# Altium integrated library Motorola Microcontroller 32-Bit.IntLib: 337 symbols (part 17 of 29)
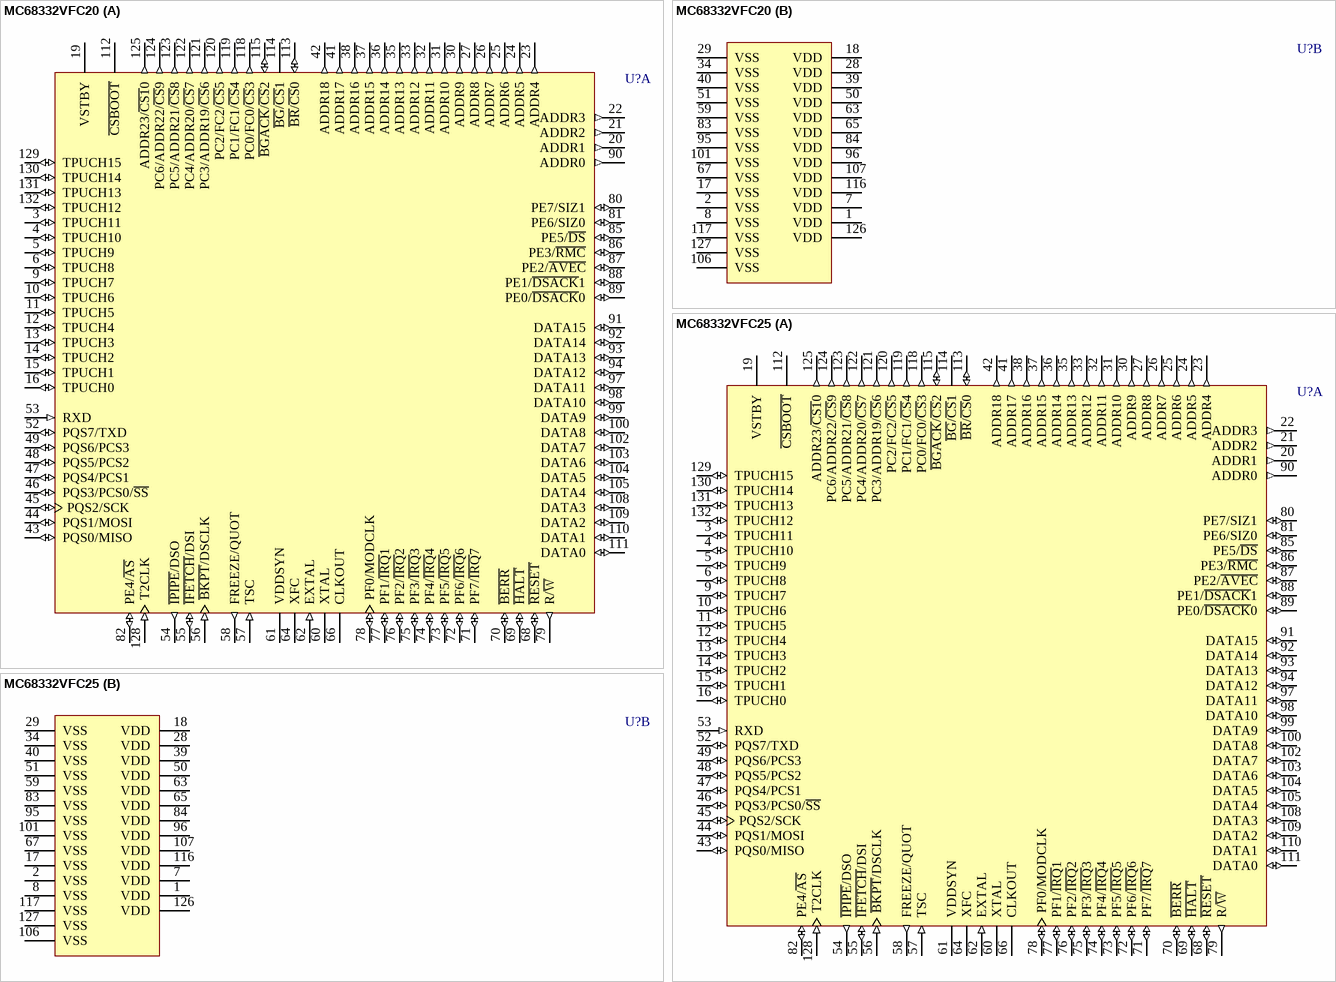
[diagram p256: symbols MC68332VFC20 to MC68332VFC25]

## MC68332VFC25
designator U?
32-Bit Microcontroller; Published: 21-Mar-2003; DatasheetVersion: Jan-1996; PackageVersion: 1997; PackageReference: 831A-01; Publisher: Altium Limited; PackageDescription: PQFP; 132 Leads; Body 24 x 24 mm; Pitch 0.635 mm; ComponentLink1Description: Manufacturer Link; ComponentLink1URL: http://www.freescale.com/; ComponentLink2Description: Datasheet; ComponentLink2URL: http://www.freescale.com/files/microcontrollers/doc/user_guide/MC68332UM.pdf
footprint 831A-01 (PQFP; 132 Leads; Body 24 x 24 mm; Pitch 0.635 mm)
part A pins: 3 TPUCH11 (io), 4 TPUCH10 (io), 5 TPUCH9 (io), 6 TPUCH8 (io), 9 TPUCH7 (io), 10 TPUCH6 (io), 11 TPUCH5 (io), 12 TPUCH4 (io), 13 TPUCH3 (io), 14 TPUCH2 (io), 15 TPUCH1 (io), 16 TPUCH0 (io), 19 VSTBY (power), 20 ADDR1 (out), 21 ADDR2 (out), 22 ADDR3 (out), 23 ADDR4 (out), 24 ADDR5 (out), 25 ADDR6 (out), 26 ADDR7 (out), 27 ADDR8 (out), 30 ADDR9 (out), 31 ADDR10 (out), 32 ADDR11 (out), 33 ADDR12 (out), 35 ADDR13 (out), 36 ADDR14 (out), 37 ADDR15 (out), 38 ADDR16 (out), 41 ADDR17 (out), 42 ADDR18 (out), 43 PQS0/MISO (io), 44 PQS1/MOSI (io), 45 PQS2/SCK (io), 46 PQS3/PCS0/~{SS} (io), 47 PQS4/PCS1 (io), 48 PQS5/PCS2 (io), 49 PQS6/PCS3 (io), 52 PQS7/TXD (io), 53 RXD (in), 54 ~{IPIPE}/DSO (out), 55 ~{IFETCH}/DSI (io), 56 ~{BKPT}/DSCLK (in), 57 TSC (in), 58 FREEZE/QUOT (out), 60 XTAL, 61 VDDSYN (power), 62 EXTAL (in), 64 XFC, 66 CLKOUT (hiz), 68 ~{RESET} (io), 69 ~{HALT} (io), 70 ~{BERR} (io), 71 PF7/~{IRQ}7 (io), 72 PF6/~{IRQ}6 (io), 73 PF5/~{IRQ}5 (io), 74 PF4/~{IRQ}4 (io), 75 PF3/~{IRQ}3 (io), 76 PF2/~{IRQ}2 (io), 77 PF1/~{IRQ}1 (io), 78 PF0/MODCLK (io), 79 R/~{W} (out), 80 PE7/SIZ1 (io), 81 PE6/SIZ0 (io), 82 PE4/~{AS} (io), 85 PE5/~{DS} (io), 86 PE3/~{RMC} (io), 87 PE2/~{AVEC} (io), 88 PE1/~{DSACK}1 (io), 89 PE0/~{DSACK}0 (io), 90 ADDR0 (out), 91 DATA15 (io), 92 DATA14 (io), 93 DATA13 (io), 94 DATA12 (io), 97 DATA11 (io), 98 DATA10 (io), 99 DATA9 (io), 100 DATA8 (io), 102 DATA7 (io), 103 DATA6 (io), 104 DATA5 (io), 105 DATA4 (io), 108 DATA3 (io), 109 DATA2 (io), 110 DATA1 (io), 111 DATA0 (io), 112 ~{CSBOOT} (hiz), 113 ~{BR}/~{CS}0 (io), 114 ~{BG}/~{CS}1 (hiz), 115 ~{BGACK}/~{CS}2 (io), 118 PC0/FC0/~{CS}3 (out), 119 PC1/FC1/~{CS}4 (out), 120 PC2/FC2/~{CS}5 (out), 121 PC3/ADDR19/~{CS}6 (out), 122 PC4/ADDR20/~{CS}7 (out), 123 PC5/ADDR21/~{CS}8 (out), 124 PC6/ADDR22/~{CS}9 (out), 125 ADDR23/~{CS1}0 (out), 128 T2CLK (in), 129 TPUCH15 (io), 130 TPUCH14 (io), 131 TPUCH13 (io), 132 TPUCH12 (io)
part B pins: 1 VDD (power), 2 VSS (power), 7 VDD (power), 8 VSS (power), 17 VSS (power), 18 VDD (power), 28 VDD (power), 29 VSS (power), 34 VSS (power), 39 VDD (power), 40 VSS (power), 50 VDD (power), 51 VSS (power), 59 VSS (power), 63 VDD (power), 65 VDD (power), 67 VSS (power), 83 VSS (power), 84 VDD (power), 95 VSS (power), 96 VDD (power), 101 VSS (power), 106 VSS (power), 107 VDD (power), 116 VDD (power), 117 VSS (power), 126 VDD (power), 127 VSS (power)

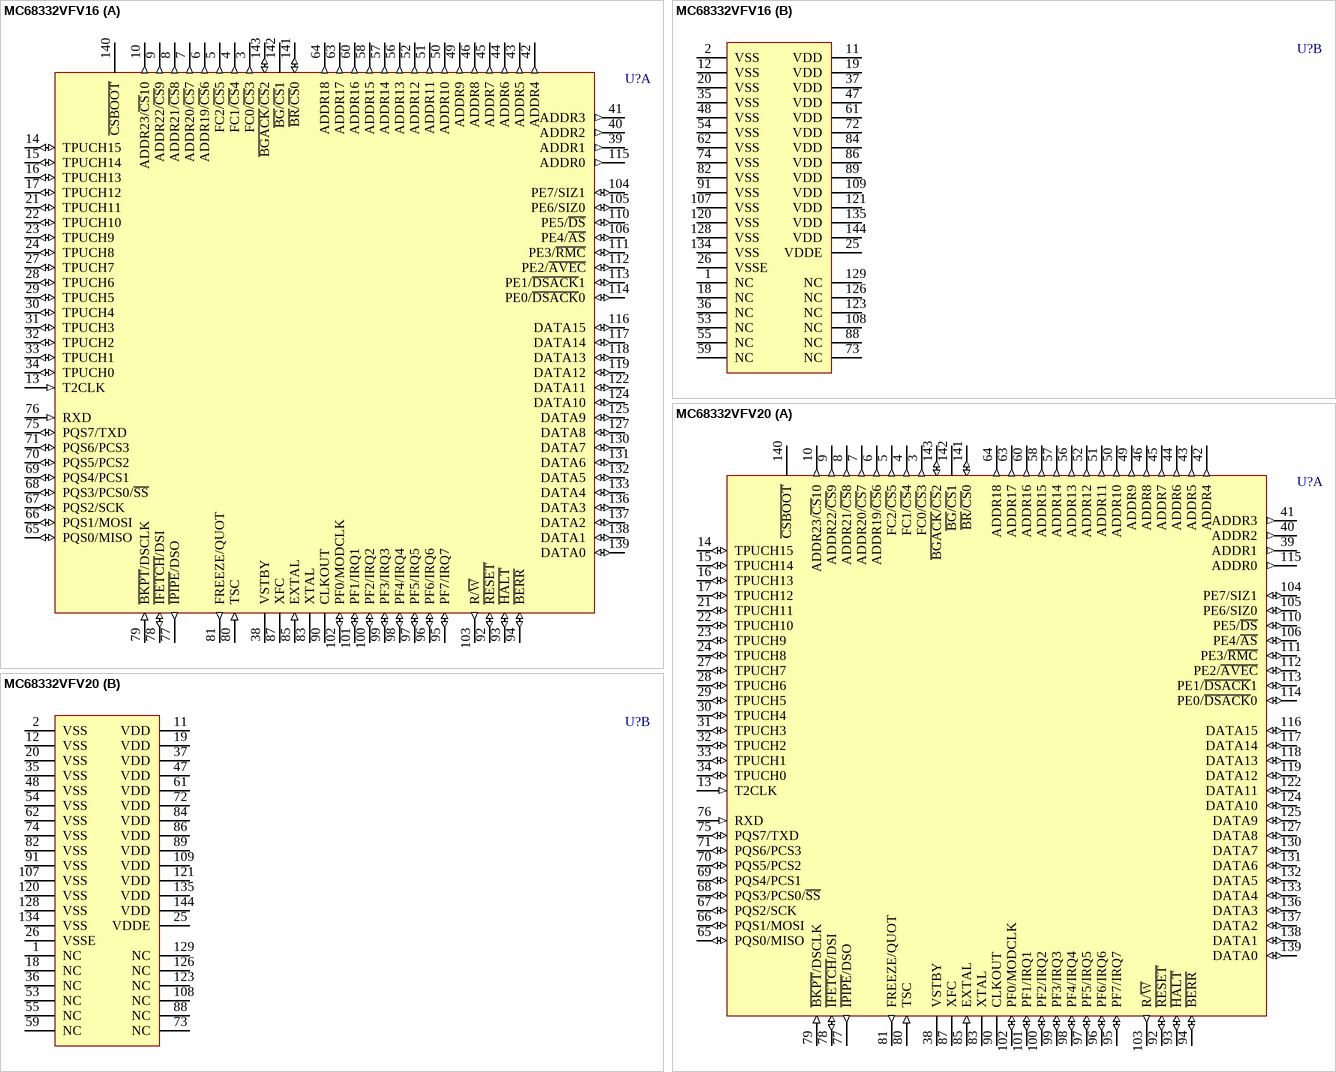
[diagram p138: symbols MC68332VFV16 to MC68332VFV20]

## MC68332VFV16
designator U?
32-Bit Microcontroller; Published: 21-Mar-2003; LatestRevisionDate: 13-Apr-2006; LatestRevisionNote: IPC-7351 Footprint Added.; DatasheetVersion: Jan-1996; PackageVersion: Oct-2000; PackageReference: 863C-01; Publisher: Altium Limited; PackageDescription: 144-Pin Shrink Quad Flat Pack 0.5 mm Pitch; ComponentLink1Description: Manufacturer Link; ComponentLink1URL: http://www.freescale.com/; ComponentLink2Description: Datasheet; ComponentLink2URL: http://www.freescale.com/files/microcontrollers/doc/user_guide/MC68332UM.pdf
footprint 863C-01_N (Shrink QFP, 144-Leads, Body 20x20mm, Pitch 0.5mm, IPC Medium Density)
footprint 863C-01_L (Shrink QFP, 144-Leads, Body 20x20mm, Pitch 0.5mm, IPC High Density)
footprint 863C-01_M (Shrink QFP, 144-Leads, Body 20x20mm, Pitch 0.5mm, IPC Low Density)
3D model MC68332-863C-01 (144-Pin Shrink Quad Flat Pack 0.5 mm Pitch)
part A pins: 3 FC0/~{CS}3 (out), 4 FC1/~{CS}4 (out), 5 FC2/~{CS}5 (out), 6 ADDR19/~{CS}6 (out), 7 ADDR20/~{CS}7 (out), 8 ADDR21/~{CS}8 (out), 9 ADDR22/~{CS}9 (out), 10 ADDR23/~{CS}10 (out), 13 T2CLK (in), 14 TPUCH15 (io), 15 TPUCH14 (io), 16 TPUCH13 (io), 17 TPUCH12 (io), 21 TPUCH11 (io), 22 TPUCH10 (io), 23 TPUCH9 (io), 24 TPUCH8 (io), 27 TPUCH7 (io), 28 TPUCH6 (io), 29 TPUCH5 (io), 30 TPUCH4 (io), 31 TPUCH3 (io), 32 TPUCH2 (io), 33 TPUCH1 (io), 34 TPUCH0 (io), 38 VSTBY (power), 39 ADDR1 (out), 40 ADDR2 (out), 41 ADDR3 (out), 42 ADDR4 (out), 43 ADDR5 (out), 44 ADDR6 (out), 45 ADDR7 (out), 46 ADDR8 (out), 49 ADDR9 (out), 50 ADDR10 (out), 51 ADDR11 (out), 52 ADDR12 (out), 56 ADDR13 (out), 57 ADDR14 (out), 58 ADDR15 (out), 60 ADDR16 (out), 63 ADDR17 (out), 64 ADDR18 (out), 65 PQS0/MISO (io), 66 PQS1/MOSI (io), 67 PQS2/SCK (io), 68 PQS3/PCS0/~{SS} (io), 69 PQS4/PCS1 (io), 70 PQS5/PCS2 (io), 71 PQS6/PCS3 (io), 75 PQS7/TXD (io), 76 RXD (in), 77 ~{IPIPE}/DSO (out), 78 ~{IFETCH}/DSI (io), 79 ~{BKPT}/DSCLK (in), 80 TSC (in), 81 FREEZE/QUOT (out), 83 XTAL, 85 EXTAL (in), 87 XFC, 90 CLKOUT (hiz), 92 ~{RESET} (io), 93 ~{HALT} (io), 94 ~{BERR} (io), 95 PF7/IRQ7 (io), 96 PF6/IRQ6 (io), 97 PF5/IRQ5 (io), 98 PF4/IRQ4 (io), 99 PF3/IRQ3 (io), 100 PF2/IRQ2 (io), 101 PF1/IRQ1 (io), 102 PF0/MODCLK (io), 103 R/~{W} (out), 104 PE7/SIZ1 (io), 105 PE6/SIZ0 (io), 106 PE4/~{AS} (io), 110 PE5/~{DS} (io), 111 PE3/~{RMC} (io), 112 PE2/~{AVEC} (io), 113 PE1/~{DSACK}1 (io), 114 PE0/~{DSACK}0 (io), 115 ADDR0 (out), 116 DATA15 (io), 117 DATA14 (io), 118 DATA13 (io), 119 DATA12 (io), 122 DATA11 (io), 124 DATA10 (io), 125 DATA9 (io), 127 DATA8 (io), 130 DATA7 (io), 131 DATA6 (io), 132 DATA5 (io), 133 DATA4 (io), 136 DATA3 (io), 137 DATA2 (io), 138 DATA1 (io), 139 DATA0 (io), 140 ~{CSBOOT} (hiz), 141 ~{BR}/~{CS}0 (io), 142 ~{BG}/~{CS}1 (hiz), 143 ~{BGACK}/~{CS}2 (io)
part B pins: 1 NC, 2 VSS (power), 11 VDD (power), 12 VSS (power), 18 NC, 19 VDD (power), 20 VSS (power), 25 VDDE (power), 26 VSSE (power), 35 VSS (power), 36 NC, 37 VDD (power), 47 VDD (power), 48 VSS (power), 53 NC, 54 VSS (power), 55 NC, 59 NC, 61 VDD (power), 62 VSS (power), 72 VDD (power), 73 NC, 74 VSS (power), 82 VSS (power), 84 VDD (power), 86 VDD (power), 88 NC, 89 VDD (power), 91 VSS (power), 107 VSS (power), 108 NC, 109 VDD (power), 120 VSS (power), 121 VDD (power), 123 NC, 126 NC, 128 VSS (power), 129 NC, 134 VSS (power), 135 VDD (power), 144 VDD (power)

## MC68332VFV20
designator U?
32-Bit Microcontroller; Published: 21-Mar-2003; LatestRevisionDate: 13-Apr-2006; LatestRevisionNote: IPC-7351 Footprint Added.; DatasheetVersion: Jan-1996; PackageVersion: Oct-2000; PackageReference: 863C-01; Publisher: Altium Limited; PackageDescription: 144-Pin Shrink Quad Flat Pack 0.5 mm Pitch; ComponentLink1Description: Manufacturer Link; ComponentLink1URL: http://www.freescale.com/; ComponentLink2Description: Datasheet; ComponentLink2URL: http://www.freescale.com/files/microcontrollers/doc/user_guide/MC68332UM.pdf
footprint 863C-01_N (Shrink QFP, 144-Leads, Body 20x20mm, Pitch 0.5mm, IPC Medium Density)
footprint 863C-01_L (Shrink QFP, 144-Leads, Body 20x20mm, Pitch 0.5mm, IPC High Density)
footprint 863C-01_M (Shrink QFP, 144-Leads, Body 20x20mm, Pitch 0.5mm, IPC Low Density)
3D model MC68332-863C-01 (144-Pin Shrink Quad Flat Pack 0.5 mm Pitch)
part A pins: 3 FC0/~{CS}3 (out), 4 FC1/~{CS}4 (out), 5 FC2/~{CS}5 (out), 6 ADDR19/~{CS}6 (out), 7 ADDR20/~{CS}7 (out), 8 ADDR21/~{CS}8 (out), 9 ADDR22/~{CS}9 (out), 10 ADDR23/~{CS}10 (out), 13 T2CLK (in), 14 TPUCH15 (io), 15 TPUCH14 (io), 16 TPUCH13 (io), 17 TPUCH12 (io), 21 TPUCH11 (io), 22 TPUCH10 (io), 23 TPUCH9 (io), 24 TPUCH8 (io), 27 TPUCH7 (io), 28 TPUCH6 (io), 29 TPUCH5 (io), 30 TPUCH4 (io), 31 TPUCH3 (io), 32 TPUCH2 (io), 33 TPUCH1 (io), 34 TPUCH0 (io), 38 VSTBY (power), 39 ADDR1 (out), 40 ADDR2 (out), 41 ADDR3 (out), 42 ADDR4 (out), 43 ADDR5 (out), 44 ADDR6 (out), 45 ADDR7 (out), 46 ADDR8 (out), 49 ADDR9 (out), 50 ADDR10 (out), 51 ADDR11 (out), 52 ADDR12 (out), 56 ADDR13 (out), 57 ADDR14 (out), 58 ADDR15 (out), 60 ADDR16 (out), 63 ADDR17 (out), 64 ADDR18 (out), 65 PQS0/MISO (io), 66 PQS1/MOSI (io), 67 PQS2/SCK (io), 68 PQS3/PCS0/~{SS} (io), 69 PQS4/PCS1 (io), 70 PQS5/PCS2 (io), 71 PQS6/PCS3 (io), 75 PQS7/TXD (io), 76 RXD (in), 77 ~{IPIPE}/DSO (out), 78 ~{IFETCH}/DSI (io), 79 ~{BKPT}/DSCLK (in), 80 TSC (in), 81 FREEZE/QUOT (out), 83 XTAL, 85 EXTAL (in), 87 XFC, 90 CLKOUT (hiz), 92 ~{RESET} (io), 93 ~{HALT} (io), 94 ~{BERR} (io), 95 PF7/IRQ7 (io), 96 PF6/IRQ6 (io), 97 PF5/IRQ5 (io), 98 PF4/IRQ4 (io), 99 PF3/IRQ3 (io), 100 PF2/IRQ2 (io), 101 PF1/IRQ1 (io), 102 PF0/MODCLK (io), 103 R/~{W} (out), 104 PE7/SIZ1 (io), 105 PE6/SIZ0 (io), 106 PE4/~{AS} (io), 110 PE5/~{DS} (io), 111 PE3/~{RMC} (io), 112 PE2/~{AVEC} (io), 113 PE1/~{DSACK}1 (io), 114 PE0/~{DSACK}0 (io), 115 ADDR0 (out), 116 DATA15 (io), 117 DATA14 (io), 118 DATA13 (io), 119 DATA12 (io), 122 DATA11 (io), 124 DATA10 (io), 125 DATA9 (io), 127 DATA8 (io), 130 DATA7 (io), 131 DATA6 (io), 132 DATA5 (io), 133 DATA4 (io), 136 DATA3 (io), 137 DATA2 (io), 138 DATA1 (io), 139 DATA0 (io), 140 ~{CSBOOT} (hiz), 141 ~{BR}/~{CS}0 (io), 142 ~{BG}/~{CS}1 (hiz), 143 ~{BGACK}/~{CS}2 (io)
part B pins: 1 NC, 2 VSS (power), 11 VDD (power), 12 VSS (power), 18 NC, 19 VDD (power), 20 VSS (power), 25 VDDE (power), 26 VSSE (power), 35 VSS (power), 36 NC, 37 VDD (power), 47 VDD (power), 48 VSS (power), 53 NC, 54 VSS (power), 55 NC, 59 NC, 61 VDD (power), 62 VSS (power), 72 VDD (power), 73 NC, 74 VSS (power), 82 VSS (power), 84 VDD (power), 86 VDD (power), 88 NC, 89 VDD (power), 91 VSS (power), 107 VSS (power), 108 NC, 109 VDD (power), 120 VSS (power), 121 VDD (power), 123 NC, 126 NC, 128 VSS (power), 129 NC, 134 VSS (power), 135 VDD (power), 144 VDD (power)

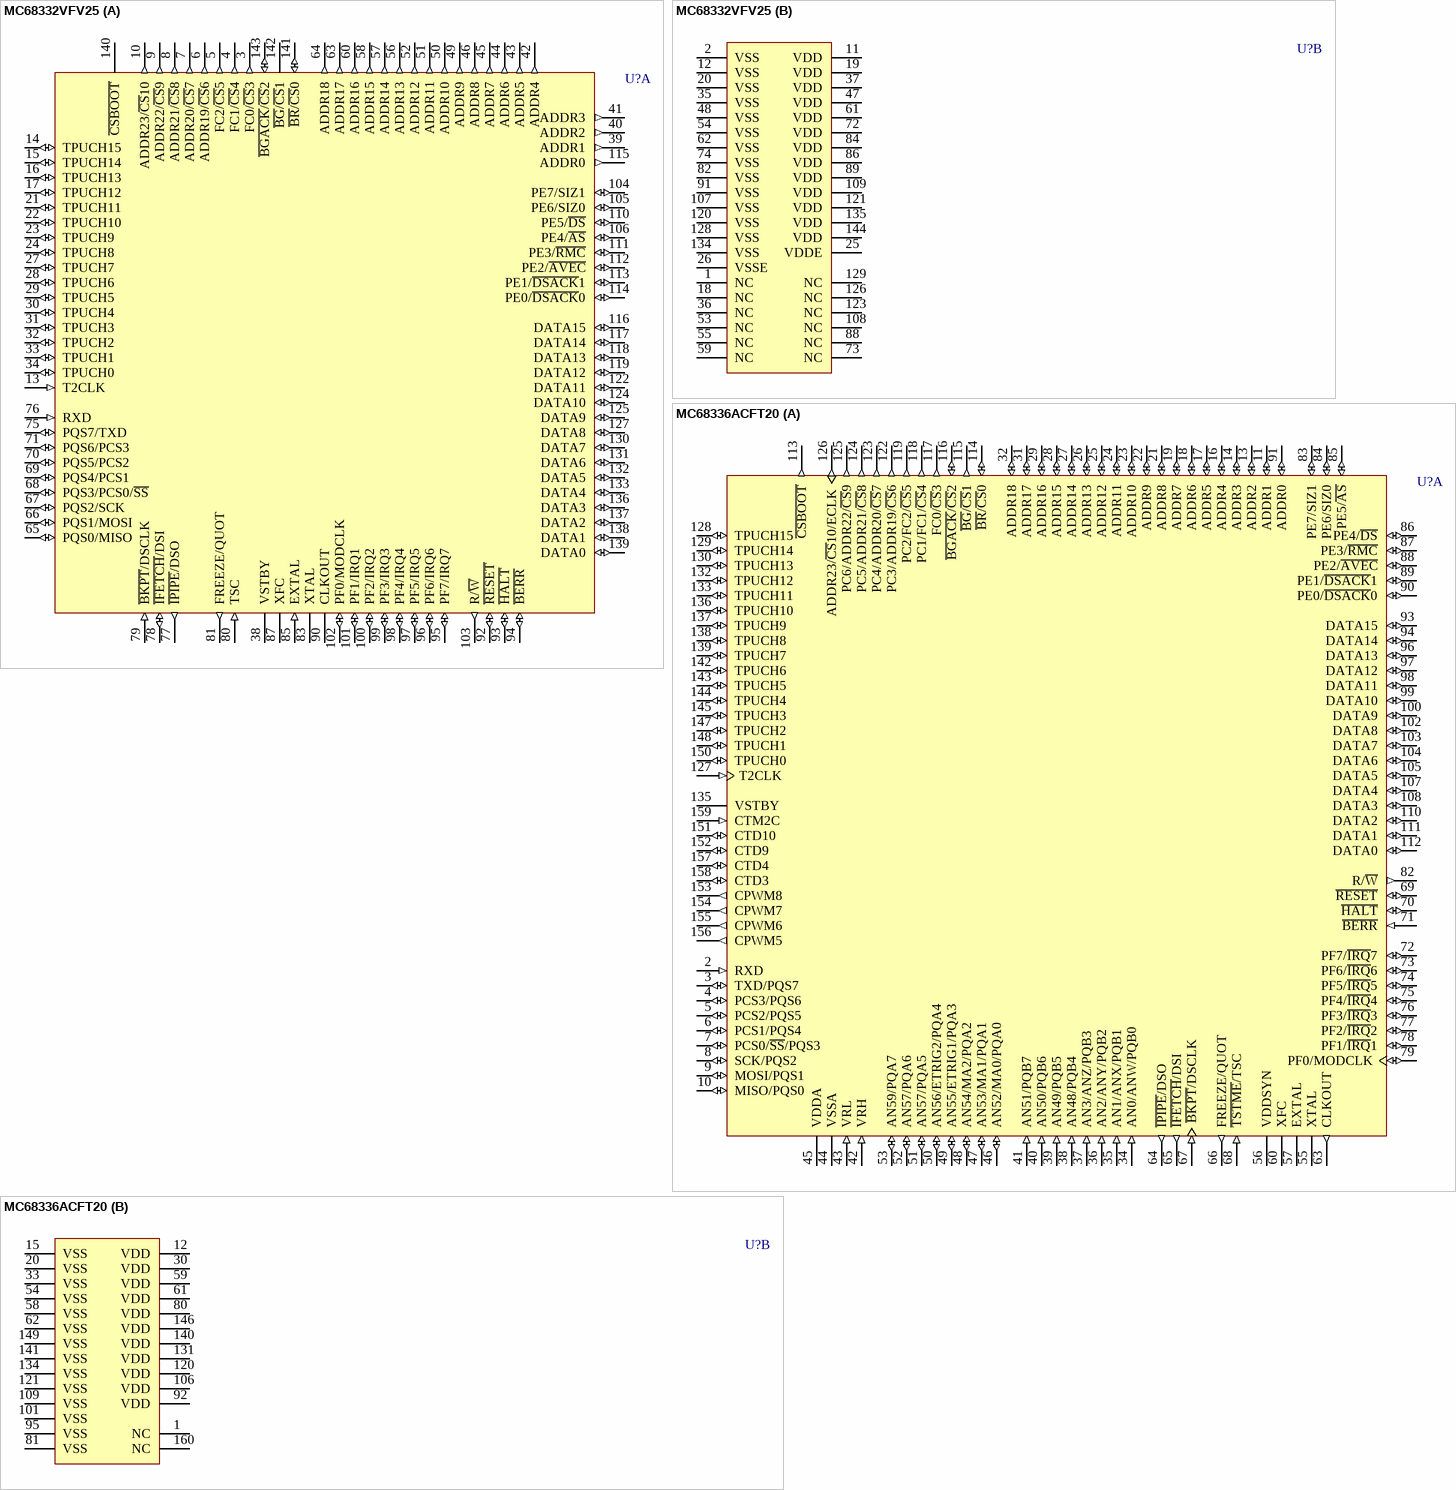
[diagram p139: symbols MC68332VFV25 to MC68336ACFT20]

## MC68332VFV25
designator U?
32-Bit Microcontroller; Published: 21-Mar-2003; LatestRevisionDate: 13-Apr-2006; LatestRevisionNote: IPC-7351 Footprint Added.; DatasheetVersion: Jan-1996; PackageVersion: Oct-2000; PackageReference: 863C-01; Publisher: Altium Limited; PackageDescription: 144-Pin Shrink Quad Flat Pack 0.5 mm Pitch; ComponentLink1Description: Manufacturer Link; ComponentLink1URL: http://www.freescale.com/; ComponentLink2Description: Datasheet; ComponentLink2URL: http://www.freescale.com/files/microcontrollers/doc/user_guide/MC68332UM.pdf
footprint 863C-01_N (Shrink QFP, 144-Leads, Body 20x20mm, Pitch 0.5mm, IPC Medium Density)
footprint 863C-01_L (Shrink QFP, 144-Leads, Body 20x20mm, Pitch 0.5mm, IPC High Density)
footprint 863C-01_M (Shrink QFP, 144-Leads, Body 20x20mm, Pitch 0.5mm, IPC Low Density)
3D model MC68332-863C-01 (144-Pin Shrink Quad Flat Pack 0.5 mm Pitch)
part A pins: 3 FC0/~{CS}3 (out), 4 FC1/~{CS}4 (out), 5 FC2/~{CS}5 (out), 6 ADDR19/~{CS}6 (out), 7 ADDR20/~{CS}7 (out), 8 ADDR21/~{CS}8 (out), 9 ADDR22/~{CS}9 (out), 10 ADDR23/~{CS}10 (out), 13 T2CLK (in), 14 TPUCH15 (io), 15 TPUCH14 (io), 16 TPUCH13 (io), 17 TPUCH12 (io), 21 TPUCH11 (io), 22 TPUCH10 (io), 23 TPUCH9 (io), 24 TPUCH8 (io), 27 TPUCH7 (io), 28 TPUCH6 (io), 29 TPUCH5 (io), 30 TPUCH4 (io), 31 TPUCH3 (io), 32 TPUCH2 (io), 33 TPUCH1 (io), 34 TPUCH0 (io), 38 VSTBY (power), 39 ADDR1 (out), 40 ADDR2 (out), 41 ADDR3 (out), 42 ADDR4 (out), 43 ADDR5 (out), 44 ADDR6 (out), 45 ADDR7 (out), 46 ADDR8 (out), 49 ADDR9 (out), 50 ADDR10 (out), 51 ADDR11 (out), 52 ADDR12 (out), 56 ADDR13 (out), 57 ADDR14 (out), 58 ADDR15 (out), 60 ADDR16 (out), 63 ADDR17 (out), 64 ADDR18 (out), 65 PQS0/MISO (io), 66 PQS1/MOSI (io), 67 PQS2/SCK (io), 68 PQS3/PCS0/~{SS} (io), 69 PQS4/PCS1 (io), 70 PQS5/PCS2 (io), 71 PQS6/PCS3 (io), 75 PQS7/TXD (io), 76 RXD (in), 77 ~{IPIPE}/DSO (out), 78 ~{IFETCH}/DSI (io), 79 ~{BKPT}/DSCLK (in), 80 TSC (in), 81 FREEZE/QUOT (out), 83 XTAL, 85 EXTAL (in), 87 XFC, 90 CLKOUT (hiz), 92 ~{RESET} (io), 93 ~{HALT} (io), 94 ~{BERR} (io), 95 PF7/IRQ7 (io), 96 PF6/IRQ6 (io), 97 PF5/IRQ5 (io), 98 PF4/IRQ4 (io), 99 PF3/IRQ3 (io), 100 PF2/IRQ2 (io), 101 PF1/IRQ1 (io), 102 PF0/MODCLK (io), 103 R/~{W} (out), 104 PE7/SIZ1 (io), 105 PE6/SIZ0 (io), 106 PE4/~{AS} (io), 110 PE5/~{DS} (io), 111 PE3/~{RMC} (io), 112 PE2/~{AVEC} (io), 113 PE1/~{DSACK}1 (io), 114 PE0/~{DSACK}0 (io), 115 ADDR0 (out), 116 DATA15 (io), 117 DATA14 (io), 118 DATA13 (io), 119 DATA12 (io), 122 DATA11 (io), 124 DATA10 (io), 125 DATA9 (io), 127 DATA8 (io), 130 DATA7 (io), 131 DATA6 (io), 132 DATA5 (io), 133 DATA4 (io), 136 DATA3 (io), 137 DATA2 (io), 138 DATA1 (io), 139 DATA0 (io), 140 ~{CSBOOT} (hiz), 141 ~{BR}/~{CS}0 (io), 142 ~{BG}/~{CS}1 (hiz), 143 ~{BGACK}/~{CS}2 (io)
part B pins: 1 NC, 2 VSS (power), 11 VDD (power), 12 VSS (power), 18 NC, 19 VDD (power), 20 VSS (power), 25 VDDE (power), 26 VSSE (power), 35 VSS (power), 36 NC, 37 VDD (power), 47 VDD (power), 48 VSS (power), 53 NC, 54 VSS (power), 55 NC, 59 NC, 61 VDD (power), 62 VSS (power), 72 VDD (power), 73 NC, 74 VSS (power), 82 VSS (power), 84 VDD (power), 86 VDD (power), 88 NC, 89 VDD (power), 91 VSS (power), 107 VSS (power), 108 NC, 109 VDD (power), 120 VSS (power), 121 VDD (power), 123 NC, 126 NC, 128 VSS (power), 129 NC, 134 VSS (power), 135 VDD (power), 144 VDD (power)

## MC68336ACFT20
designator U?
32-Bit Microcontroller; Published: 21-Mar-2003; LatestRevisionDate: 13-Apr-2006; LatestRevisionNote: IPC-7351 Footprint Added.; DatasheetVersion: 15-Oct-2000; PackageVersion: 1996; PackageReference: 864A-03; Publisher: Altium Limited; PackageDescription: 160-Pin Plastic Quad Flat Pack 0.65 mm Pitch; Code_IPC: QFP65P3120X3120-160; ComponentLink1Description: Manufacturer Link; ComponentLink1URL: http://www.freescale.com/; ComponentLink2Description: Datasheet; ComponentLink2URL: http://www.freescale.com/files/microcontrollers/doc/data_sheet/MC683336_376UM_ZIP.zip
footprint 864A-03_N (QFP, 160-Leads, Body 28 x 28mm, Pitch 0.65mm, IPC Medium Density)
footprint 864A-03_L (QFP, 160-Leads, Body 28 x 28mm, Pitch 0.65mm, IPC High Density)
footprint 864A-03_M (QFP, 160-Leads, Body 28 x 28mm, Pitch 0.65mm, IPC Low Density)
3D model MC68336-864A-03 (160-Pin Plastic Quad Flat Pack 0.65 mm Pitch)
part A pins: 2 RXD (in), 3 TXD/PQS7 (io), 4 PCS3/PQS6 (io), 5 PCS2/PQS5 (io), 6 PCS1/PQS4 (io), 7 PCS0/~{SS}/PQS3 (io), 8 SCK/PQS2 (io), 9 MOSI/PQS1 (io), 10 MISO/PQS0 (io), 11 ADDR1 (io), 13 ADDR2 (io), 14 ADDR3 (io), 16 ADDR4 (io), 17 ADDR5 (io), 18 ADDR6 (io), 19 ADDR7 (io), 21 ADDR8 (io), 22 ADDR9 (io), 23 ADDR10 (io), 24 ADDR11 (io), 25 ADDR12 (io), 26 ADDR13 (io), 27 ADDR14 (io), 28 ADDR15 (io), 29 ADDR16 (io), 31 ADDR17 (io), 32 ADDR18 (io), 34 AN0/ANW/PQB0 (in), 35 AN1/ANX/PQB1 (in), 36 AN2/ANY/PQB2 (in), 37 AN3/ANZ/PQB3 (in), 38 AN48/PQB4 (in), 39 AN49/PQB5 (in), 40 AN50/PQB6 (in), 41 AN51/PQB7 (in), 42 VRH (in), 43 VRL (in), 44 VSSA (power), 45 VDDA (power), 46 AN52/MA0/PQA0 (io), 47 AN53/MA1/PQA1 (io), 48 AN54/MA2/PQA2 (io), 49 AN55/ETRIG1/PQA3 (io), 50 AN56/ETRIG2/PQA4 (io), 51 AN57/PQA5 (io), 52 AN57/PQA6 (io), 53 AN59/PQA7 (io), 55 XTAL, 56 VDDSYN (power), 57 EXTAL, 60 XFC, 63 CLKOUT (out), 64 ~{IPIPE}/DSO (out), 65 ~{IFETCH}/DSI (out), 66 FREEZE/QUOT (out), 67 ~{BKPT}/DSCLK (in), 68 ~{TSTME}/TSC (in), 69 ~{RESET} (io), 70 ~{HALT} (io), 71 ~{BERR} (in), 72 PF7/~{IRQ}7 (io), 73 PF6/~{IRQ}6 (io), 74 PF5/~{IRQ}5 (io), 75 PF4/~{IRQ}4 (io), 76 PF3/~{IRQ}3 (io), 77 PF2/~{IRQ}2 (io), 78 PF1/~{IRQ}1 (io), 79 PF0/MODCLK (io), 82 R/~{W} (out), 83 PE7/SIZ1 (io), 84 PE6/SIZ0 (io), 85 PE5/~{AS} (io), 86 PE4/~{DS} (io), 87 PE3/~{RMC} (io), 88 PE2/~{AVEC} (io), 89 PE1/~{DSACK}1 (io), 90 PE0/~{DSACK}0 (io), 91 ADDR0 (io), 93 DATA15 (io), 94 DATA14 (io), 96 DATA13 (io), 97 DATA12 (io), 98 DATA11 (io), 99 DATA10 (io), 100 DATA9 (io), 102 DATA8 (io), 103 DATA7 (io), 104 DATA6 (io), 105 DATA5 (io), 107 DATA4 (io), 108 DATA3 (io), 110 DATA2 (io), 111 DATA1 (io), 112 DATA0 (io), 113 ~{CSBOOT} (out), 114 ~{BR}/~{CS}0 (io), 115 ~{BG}/~{CS}1 (out), 116 ~{BGACK}/~{CS}2 (io), 117 FC0/~{CS}3 (out), 118 PC1/FC1/~{CS}4 (out), 119 PC2/FC2/~{CS}5 (out), 122 PC3/ADDR19/~{CS}6 (out), 123 PC4/ADDR20/~{CS}7 (out), 124 PC5/ADDR21/~{CS}8 (out), 125 PC6/ADDR22/~{CS}9 (out), 126 ADDR23/~{CS}10/ECLK (out), 127 T2CLK (in), 128 TPUCH15 (io), 129 TPUCH14 (io), 130 TPUCH13 (io), 132 TPUCH12 (io), 133 TPUCH11 (io), 135 VSTBY (power), 136 TPUCH10 (io), 137 TPUCH9 (io), 138 TPUCH8 (io), 139 TPUCH7 (io), 142 TPUCH6 (io), 143 TPUCH5 (io), 144 TPUCH4 (io), 145 TPUCH3 (io), 147 TPUCH2 (io), 148 TPUCH1 (io), 150 TPUCH0 (io), 151 CTD10 (io), 152 CTD9 (io), 153 CPWM8 (out), 154 CPWM7 (out), 155 CPWM6 (out), 156 CPWM5 (out), 157 CTD4 (io), 158 CTD3 (io), 159 CTM2C (in)
part B pins: 1 NC, 12 VDD (power), 15 VSS (power), 20 VSS (power), 30 VDD (power), 33 VSS (power), 54 VSS (power), 58 VSS (power), 59 VDD (power), 61 VDD (power), 62 VSS (power), 80 VDD (power), 81 VSS (power), 92 VDD (power), 95 VSS (power), 101 VSS (power), 106 VDD (power), 109 VSS (power), 120 VDD (power), 121 VSS (power), 131 VDD (power), 134 VSS (power), 140 VDD (power), 141 VSS (power), 146 VDD (power), 149 VSS (power), 160 NC

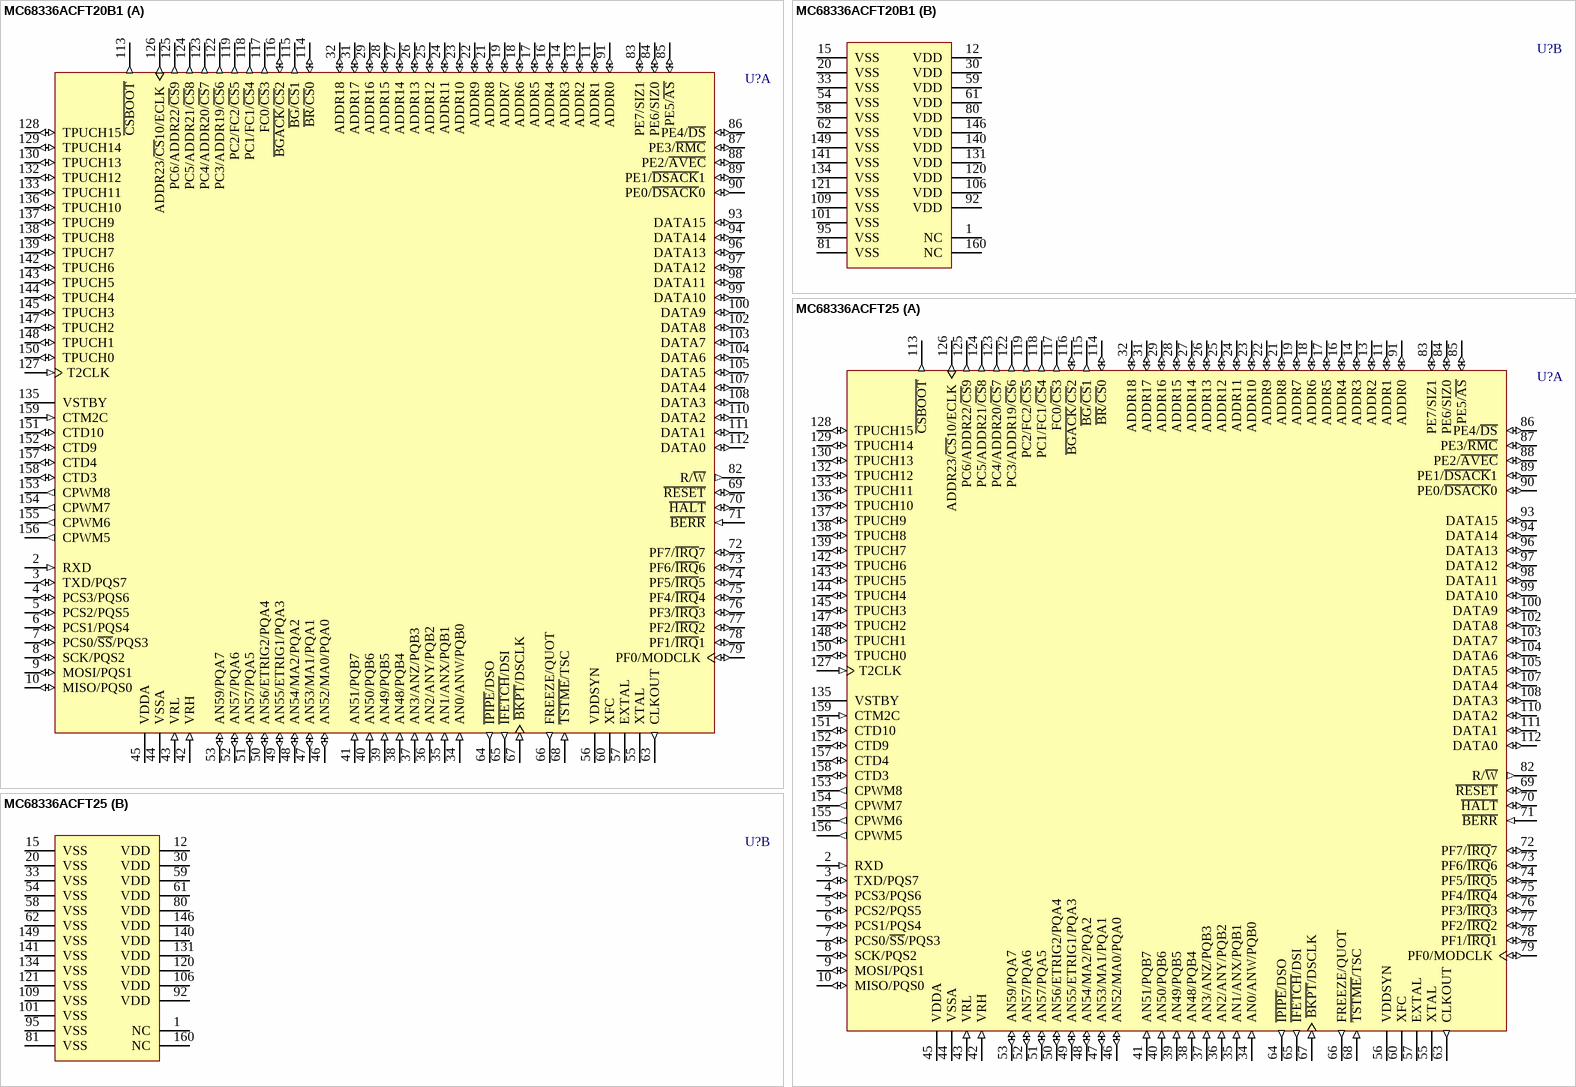
[diagram p140: symbols MC68336ACFT20B1 to MC68336ACFT25]

## MC68336ACFT20B1
designator U?
32-Bit Microcontroller; Published: 21-Mar-2003; LatestRevisionDate: 13-Apr-2006; LatestRevisionNote: IPC-7351 Footprint Added.; DatasheetVersion: 15-Oct-2000; PackageVersion: 1996; PackageReference: 864A-03; Publisher: Altium Limited; PackageDescription: 160-Pin Plastic Quad Flat Pack 0.65 mm Pitch; Code_IPC: QFP65P3120X3120-160; ComponentLink1Description: Manufacturer Link; ComponentLink1URL: http://www.freescale.com/; ComponentLink2Description: Datasheet; ComponentLink2URL: http://www.freescale.com/files/microcontrollers/doc/data_sheet/MC683336_376UM_ZIP.zip
footprint 864A-03_N (QFP, 160-Leads, Body 28 x 28mm, Pitch 0.65mm, IPC Medium Density)
footprint 864A-03_L (QFP, 160-Leads, Body 28 x 28mm, Pitch 0.65mm, IPC High Density)
footprint 864A-03_M (QFP, 160-Leads, Body 28 x 28mm, Pitch 0.65mm, IPC Low Density)
3D model MC68336-864A-03 (160-Pin Plastic Quad Flat Pack 0.65 mm Pitch)
part A pins: 2 RXD (in), 3 TXD/PQS7 (io), 4 PCS3/PQS6 (io), 5 PCS2/PQS5 (io), 6 PCS1/PQS4 (io), 7 PCS0/~{SS}/PQS3 (io), 8 SCK/PQS2 (io), 9 MOSI/PQS1 (io), 10 MISO/PQS0 (io), 11 ADDR1 (io), 13 ADDR2 (io), 14 ADDR3 (io), 16 ADDR4 (io), 17 ADDR5 (io), 18 ADDR6 (io), 19 ADDR7 (io), 21 ADDR8 (io), 22 ADDR9 (io), 23 ADDR10 (io), 24 ADDR11 (io), 25 ADDR12 (io), 26 ADDR13 (io), 27 ADDR14 (io), 28 ADDR15 (io), 29 ADDR16 (io), 31 ADDR17 (io), 32 ADDR18 (io), 34 AN0/ANW/PQB0 (in), 35 AN1/ANX/PQB1 (in), 36 AN2/ANY/PQB2 (in), 37 AN3/ANZ/PQB3 (in), 38 AN48/PQB4 (in), 39 AN49/PQB5 (in), 40 AN50/PQB6 (in), 41 AN51/PQB7 (in), 42 VRH (in), 43 VRL (in), 44 VSSA (power), 45 VDDA (power), 46 AN52/MA0/PQA0 (io), 47 AN53/MA1/PQA1 (io), 48 AN54/MA2/PQA2 (io), 49 AN55/ETRIG1/PQA3 (io), 50 AN56/ETRIG2/PQA4 (io), 51 AN57/PQA5 (io), 52 AN57/PQA6 (io), 53 AN59/PQA7 (io), 55 XTAL, 56 VDDSYN (power), 57 EXTAL, 60 XFC, 63 CLKOUT (out), 64 ~{IPIPE}/DSO (out), 65 ~{IFETCH}/DSI (out), 66 FREEZE/QUOT (out), 67 ~{BKPT}/DSCLK (in), 68 ~{TSTME}/TSC (in), 69 ~{RESET} (io), 70 ~{HALT} (io), 71 ~{BERR} (in), 72 PF7/~{IRQ}7 (io), 73 PF6/~{IRQ}6 (io), 74 PF5/~{IRQ}5 (io), 75 PF4/~{IRQ}4 (io), 76 PF3/~{IRQ}3 (io), 77 PF2/~{IRQ}2 (io), 78 PF1/~{IRQ}1 (io), 79 PF0/MODCLK (io), 82 R/~{W} (out), 83 PE7/SIZ1 (io), 84 PE6/SIZ0 (io), 85 PE5/~{AS} (io), 86 PE4/~{DS} (io), 87 PE3/~{RMC} (io), 88 PE2/~{AVEC} (io), 89 PE1/~{DSACK}1 (io), 90 PE0/~{DSACK}0 (io), 91 ADDR0 (io), 93 DATA15 (io), 94 DATA14 (io), 96 DATA13 (io), 97 DATA12 (io), 98 DATA11 (io), 99 DATA10 (io), 100 DATA9 (io), 102 DATA8 (io), 103 DATA7 (io), 104 DATA6 (io), 105 DATA5 (io), 107 DATA4 (io), 108 DATA3 (io), 110 DATA2 (io), 111 DATA1 (io), 112 DATA0 (io), 113 ~{CSBOOT} (out), 114 ~{BR}/~{CS}0 (io), 115 ~{BG}/~{CS}1 (out), 116 ~{BGACK}/~{CS}2 (io), 117 FC0/~{CS}3 (out), 118 PC1/FC1/~{CS}4 (out), 119 PC2/FC2/~{CS}5 (out), 122 PC3/ADDR19/~{CS}6 (out), 123 PC4/ADDR20/~{CS}7 (out), 124 PC5/ADDR21/~{CS}8 (out), 125 PC6/ADDR22/~{CS}9 (out), 126 ADDR23/~{CS}10/ECLK (out), 127 T2CLK (in), 128 TPUCH15 (io), 129 TPUCH14 (io), 130 TPUCH13 (io), 132 TPUCH12 (io), 133 TPUCH11 (io), 135 VSTBY (power), 136 TPUCH10 (io), 137 TPUCH9 (io), 138 TPUCH8 (io), 139 TPUCH7 (io), 142 TPUCH6 (io), 143 TPUCH5 (io), 144 TPUCH4 (io), 145 TPUCH3 (io), 147 TPUCH2 (io), 148 TPUCH1 (io), 150 TPUCH0 (io), 151 CTD10 (io), 152 CTD9 (io), 153 CPWM8 (out), 154 CPWM7 (out), 155 CPWM6 (out), 156 CPWM5 (out), 157 CTD4 (io), 158 CTD3 (io), 159 CTM2C (in)
part B pins: 1 NC, 12 VDD (power), 15 VSS (power), 20 VSS (power), 30 VDD (power), 33 VSS (power), 54 VSS (power), 58 VSS (power), 59 VDD (power), 61 VDD (power), 62 VSS (power), 80 VDD (power), 81 VSS (power), 92 VDD (power), 95 VSS (power), 101 VSS (power), 106 VDD (power), 109 VSS (power), 120 VDD (power), 121 VSS (power), 131 VDD (power), 134 VSS (power), 140 VDD (power), 141 VSS (power), 146 VDD (power), 149 VSS (power), 160 NC

## MC68336ACFT25
designator U?
32-Bit Microcontroller; Published: 21-Mar-2003; LatestRevisionDate: 13-Apr-2006; LatestRevisionNote: IPC-7351 Footprint Added.; DatasheetVersion: 15-Oct-2000; PackageVersion: 1996; PackageReference: 864A-03; Publisher: Altium Limited; PackageDescription: 160-Pin Plastic Quad Flat Pack 0.65 mm Pitch; Code_IPC: QFP65P3120X3120-160; ComponentLink1Description: Manufacturer Link; ComponentLink1URL: http://www.freescale.com/; ComponentLink2Description: Datasheet; ComponentLink2URL: http://www.freescale.com/files/microcontrollers/doc/data_sheet/MC683336_376UM_ZIP.zip
footprint 864A-03_N (QFP, 160-Leads, Body 28 x 28mm, Pitch 0.65mm, IPC Medium Density)
footprint 864A-03_L (QFP, 160-Leads, Body 28 x 28mm, Pitch 0.65mm, IPC High Density)
footprint 864A-03_M (QFP, 160-Leads, Body 28 x 28mm, Pitch 0.65mm, IPC Low Density)
3D model MC68336-864A-03 (160-Pin Plastic Quad Flat Pack 0.65 mm Pitch)
part A pins: 2 RXD (in), 3 TXD/PQS7 (io), 4 PCS3/PQS6 (io), 5 PCS2/PQS5 (io), 6 PCS1/PQS4 (io), 7 PCS0/~{SS}/PQS3 (io), 8 SCK/PQS2 (io), 9 MOSI/PQS1 (io), 10 MISO/PQS0 (io), 11 ADDR1 (io), 13 ADDR2 (io), 14 ADDR3 (io), 16 ADDR4 (io), 17 ADDR5 (io), 18 ADDR6 (io), 19 ADDR7 (io), 21 ADDR8 (io), 22 ADDR9 (io), 23 ADDR10 (io), 24 ADDR11 (io), 25 ADDR12 (io), 26 ADDR13 (io), 27 ADDR14 (io), 28 ADDR15 (io), 29 ADDR16 (io), 31 ADDR17 (io), 32 ADDR18 (io), 34 AN0/ANW/PQB0 (in), 35 AN1/ANX/PQB1 (in), 36 AN2/ANY/PQB2 (in), 37 AN3/ANZ/PQB3 (in), 38 AN48/PQB4 (in), 39 AN49/PQB5 (in), 40 AN50/PQB6 (in), 41 AN51/PQB7 (in), 42 VRH (in), 43 VRL (in), 44 VSSA (power), 45 VDDA (power), 46 AN52/MA0/PQA0 (io), 47 AN53/MA1/PQA1 (io), 48 AN54/MA2/PQA2 (io), 49 AN55/ETRIG1/PQA3 (io), 50 AN56/ETRIG2/PQA4 (io), 51 AN57/PQA5 (io), 52 AN57/PQA6 (io), 53 AN59/PQA7 (io), 55 XTAL, 56 VDDSYN (power), 57 EXTAL, 60 XFC, 63 CLKOUT (out), 64 ~{IPIPE}/DSO (out), 65 ~{IFETCH}/DSI (out), 66 FREEZE/QUOT (out), 67 ~{BKPT}/DSCLK (in), 68 ~{TSTME}/TSC (in), 69 ~{RESET} (io), 70 ~{HALT} (io), 71 ~{BERR} (in), 72 PF7/~{IRQ}7 (io), 73 PF6/~{IRQ}6 (io), 74 PF5/~{IRQ}5 (io), 75 PF4/~{IRQ}4 (io), 76 PF3/~{IRQ}3 (io), 77 PF2/~{IRQ}2 (io), 78 PF1/~{IRQ}1 (io), 79 PF0/MODCLK (io), 82 R/~{W} (out), 83 PE7/SIZ1 (io), 84 PE6/SIZ0 (io), 85 PE5/~{AS} (io), 86 PE4/~{DS} (io), 87 PE3/~{RMC} (io), 88 PE2/~{AVEC} (io), 89 PE1/~{DSACK}1 (io), 90 PE0/~{DSACK}0 (io), 91 ADDR0 (io), 93 DATA15 (io), 94 DATA14 (io), 96 DATA13 (io), 97 DATA12 (io), 98 DATA11 (io), 99 DATA10 (io), 100 DATA9 (io), 102 DATA8 (io), 103 DATA7 (io), 104 DATA6 (io), 105 DATA5 (io), 107 DATA4 (io), 108 DATA3 (io), 110 DATA2 (io), 111 DATA1 (io), 112 DATA0 (io), 113 ~{CSBOOT} (out), 114 ~{BR}/~{CS}0 (io), 115 ~{BG}/~{CS}1 (out), 116 ~{BGACK}/~{CS}2 (io), 117 FC0/~{CS}3 (out), 118 PC1/FC1/~{CS}4 (out), 119 PC2/FC2/~{CS}5 (out), 122 PC3/ADDR19/~{CS}6 (out), 123 PC4/ADDR20/~{CS}7 (out), 124 PC5/ADDR21/~{CS}8 (out), 125 PC6/ADDR22/~{CS}9 (out), 126 ADDR23/~{CS}10/ECLK (out), 127 T2CLK (in), 128 TPUCH15 (io), 129 TPUCH14 (io), 130 TPUCH13 (io), 132 TPUCH12 (io), 133 TPUCH11 (io), 135 VSTBY (power), 136 TPUCH10 (io), 137 TPUCH9 (io), 138 TPUCH8 (io), 139 TPUCH7 (io), 142 TPUCH6 (io), 143 TPUCH5 (io), 144 TPUCH4 (io), 145 TPUCH3 (io), 147 TPUCH2 (io), 148 TPUCH1 (io), 150 TPUCH0 (io), 151 CTD10 (io), 152 CTD9 (io), 153 CPWM8 (out), 154 CPWM7 (out), 155 CPWM6 (out), 156 CPWM5 (out), 157 CTD4 (io), 158 CTD3 (io), 159 CTM2C (in)
part B pins: 1 NC, 12 VDD (power), 15 VSS (power), 20 VSS (power), 30 VDD (power), 33 VSS (power), 54 VSS (power), 58 VSS (power), 59 VDD (power), 61 VDD (power), 62 VSS (power), 80 VDD (power), 81 VSS (power), 92 VDD (power), 95 VSS (power), 101 VSS (power), 106 VDD (power), 109 VSS (power), 120 VDD (power), 121 VSS (power), 131 VDD (power), 134 VSS (power), 140 VDD (power), 141 VSS (power), 146 VDD (power), 149 VSS (power), 160 NC

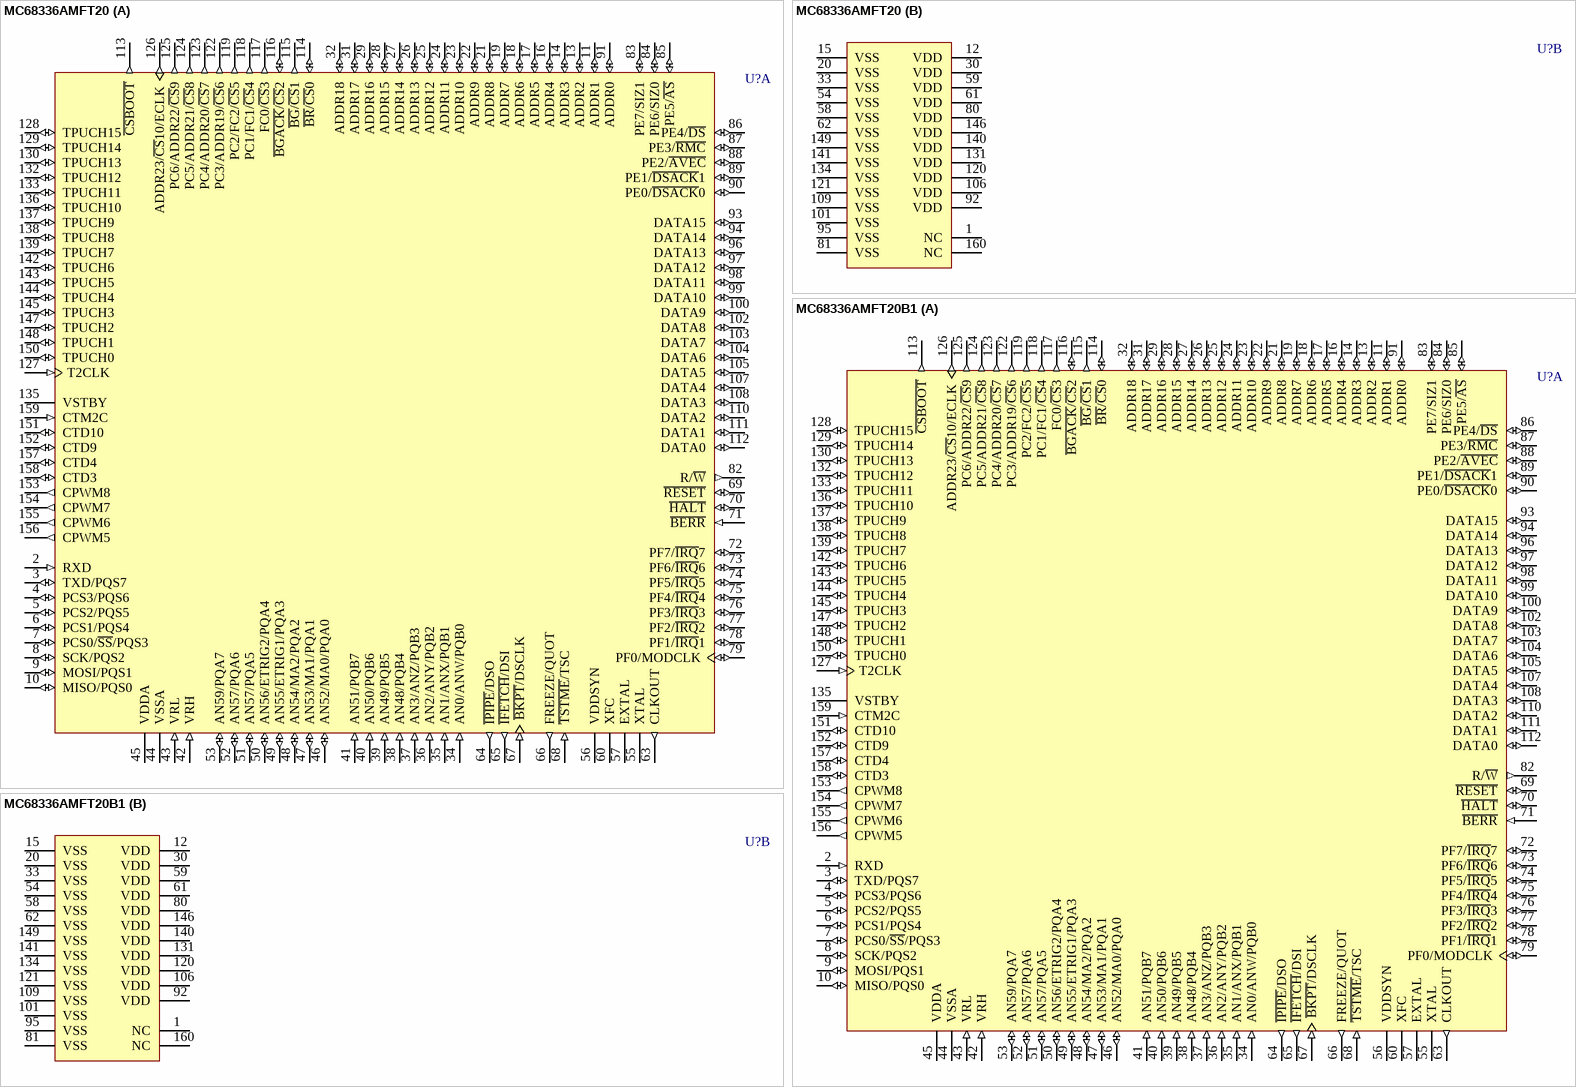
[diagram p141: symbols MC68336AMFT20 to MC68336AMFT20B1]

## MC68336AMFT20
designator U?
32-Bit Microcontroller; Published: 21-Mar-2003; LatestRevisionDate: 13-Apr-2006; LatestRevisionNote: IPC-7351 Footprint Added.; DatasheetVersion: 15-Oct-2000; PackageVersion: 1996; PackageReference: 864A-03; Publisher: Altium Limited; PackageDescription: 160-Pin Plastic Quad Flat Pack 0.65 mm Pitch; Code_IPC: QFP65P3120X3120-160; ComponentLink1Description: Manufacturer Link; ComponentLink1URL: http://www.freescale.com/; ComponentLink2Description: Datasheet; ComponentLink2URL: http://www.freescale.com/files/microcontrollers/doc/data_sheet/MC683336_376UM_ZIP.zip
footprint 864A-03_N (QFP, 160-Leads, Body 28 x 28mm, Pitch 0.65mm, IPC Medium Density)
footprint 864A-03_L (QFP, 160-Leads, Body 28 x 28mm, Pitch 0.65mm, IPC High Density)
footprint 864A-03_M (QFP, 160-Leads, Body 28 x 28mm, Pitch 0.65mm, IPC Low Density)
3D model MC68336-864A-03 (160-Pin Plastic Quad Flat Pack 0.65 mm Pitch)
part A pins: 2 RXD (in), 3 TXD/PQS7 (io), 4 PCS3/PQS6 (io), 5 PCS2/PQS5 (io), 6 PCS1/PQS4 (io), 7 PCS0/~{SS}/PQS3 (io), 8 SCK/PQS2 (io), 9 MOSI/PQS1 (io), 10 MISO/PQS0 (io), 11 ADDR1 (io), 13 ADDR2 (io), 14 ADDR3 (io), 16 ADDR4 (io), 17 ADDR5 (io), 18 ADDR6 (io), 19 ADDR7 (io), 21 ADDR8 (io), 22 ADDR9 (io), 23 ADDR10 (io), 24 ADDR11 (io), 25 ADDR12 (io), 26 ADDR13 (io), 27 ADDR14 (io), 28 ADDR15 (io), 29 ADDR16 (io), 31 ADDR17 (io), 32 ADDR18 (io), 34 AN0/ANW/PQB0 (in), 35 AN1/ANX/PQB1 (in), 36 AN2/ANY/PQB2 (in), 37 AN3/ANZ/PQB3 (in), 38 AN48/PQB4 (in), 39 AN49/PQB5 (in), 40 AN50/PQB6 (in), 41 AN51/PQB7 (in), 42 VRH (in), 43 VRL (in), 44 VSSA (power), 45 VDDA (power), 46 AN52/MA0/PQA0 (io), 47 AN53/MA1/PQA1 (io), 48 AN54/MA2/PQA2 (io), 49 AN55/ETRIG1/PQA3 (io), 50 AN56/ETRIG2/PQA4 (io), 51 AN57/PQA5 (io), 52 AN57/PQA6 (io), 53 AN59/PQA7 (io), 55 XTAL, 56 VDDSYN (power), 57 EXTAL, 60 XFC, 63 CLKOUT (out), 64 ~{IPIPE}/DSO (out), 65 ~{IFETCH}/DSI (out), 66 FREEZE/QUOT (out), 67 ~{BKPT}/DSCLK (in), 68 ~{TSTME}/TSC (in), 69 ~{RESET} (io), 70 ~{HALT} (io), 71 ~{BERR} (in), 72 PF7/~{IRQ}7 (io), 73 PF6/~{IRQ}6 (io), 74 PF5/~{IRQ}5 (io), 75 PF4/~{IRQ}4 (io), 76 PF3/~{IRQ}3 (io), 77 PF2/~{IRQ}2 (io), 78 PF1/~{IRQ}1 (io), 79 PF0/MODCLK (io), 82 R/~{W} (out), 83 PE7/SIZ1 (io), 84 PE6/SIZ0 (io), 85 PE5/~{AS} (io), 86 PE4/~{DS} (io), 87 PE3/~{RMC} (io), 88 PE2/~{AVEC} (io), 89 PE1/~{DSACK}1 (io), 90 PE0/~{DSACK}0 (io), 91 ADDR0 (io), 93 DATA15 (io), 94 DATA14 (io), 96 DATA13 (io), 97 DATA12 (io), 98 DATA11 (io), 99 DATA10 (io), 100 DATA9 (io), 102 DATA8 (io), 103 DATA7 (io), 104 DATA6 (io), 105 DATA5 (io), 107 DATA4 (io), 108 DATA3 (io), 110 DATA2 (io), 111 DATA1 (io), 112 DATA0 (io), 113 ~{CSBOOT} (out), 114 ~{BR}/~{CS}0 (io), 115 ~{BG}/~{CS}1 (out), 116 ~{BGACK}/~{CS}2 (io), 117 FC0/~{CS}3 (out), 118 PC1/FC1/~{CS}4 (out), 119 PC2/FC2/~{CS}5 (out), 122 PC3/ADDR19/~{CS}6 (out), 123 PC4/ADDR20/~{CS}7 (out), 124 PC5/ADDR21/~{CS}8 (out), 125 PC6/ADDR22/~{CS}9 (out), 126 ADDR23/~{CS}10/ECLK (out), 127 T2CLK (in), 128 TPUCH15 (io), 129 TPUCH14 (io), 130 TPUCH13 (io), 132 TPUCH12 (io), 133 TPUCH11 (io), 135 VSTBY (power), 136 TPUCH10 (io), 137 TPUCH9 (io), 138 TPUCH8 (io), 139 TPUCH7 (io), 142 TPUCH6 (io), 143 TPUCH5 (io), 144 TPUCH4 (io), 145 TPUCH3 (io), 147 TPUCH2 (io), 148 TPUCH1 (io), 150 TPUCH0 (io), 151 CTD10 (io), 152 CTD9 (io), 153 CPWM8 (out), 154 CPWM7 (out), 155 CPWM6 (out), 156 CPWM5 (out), 157 CTD4 (io), 158 CTD3 (io), 159 CTM2C (in)
part B pins: 1 NC, 12 VDD (power), 15 VSS (power), 20 VSS (power), 30 VDD (power), 33 VSS (power), 54 VSS (power), 58 VSS (power), 59 VDD (power), 61 VDD (power), 62 VSS (power), 80 VDD (power), 81 VSS (power), 92 VDD (power), 95 VSS (power), 101 VSS (power), 106 VDD (power), 109 VSS (power), 120 VDD (power), 121 VSS (power), 131 VDD (power), 134 VSS (power), 140 VDD (power), 141 VSS (power), 146 VDD (power), 149 VSS (power), 160 NC

## MC68336AMFT20B1
designator U?
32-Bit Microcontroller; Published: 21-Mar-2003; LatestRevisionDate: 13-Apr-2006; LatestRevisionNote: IPC-7351 Footprint Added.; DatasheetVersion: 15-Oct-2000; PackageVersion: 1996; PackageReference: 864A-03; Publisher: Altium Limited; PackageDescription: 160-Pin Plastic Quad Flat Pack 0.65 mm Pitch; Code_IPC: QFP65P3120X3120-160; ComponentLink1Description: Manufacturer Link; ComponentLink1URL: http://www.freescale.com/; ComponentLink2Description: Datasheet; ComponentLink2URL: http://www.freescale.com/files/microcontrollers/doc/data_sheet/MC683336_376UM_ZIP.zip
footprint 864A-03_N (QFP, 160-Leads, Body 28 x 28mm, Pitch 0.65mm, IPC Medium Density)
footprint 864A-03_L (QFP, 160-Leads, Body 28 x 28mm, Pitch 0.65mm, IPC High Density)
footprint 864A-03_M (QFP, 160-Leads, Body 28 x 28mm, Pitch 0.65mm, IPC Low Density)
3D model MC68336-864A-03 (160-Pin Plastic Quad Flat Pack 0.65 mm Pitch)
part A pins: 2 RXD (in), 3 TXD/PQS7 (io), 4 PCS3/PQS6 (io), 5 PCS2/PQS5 (io), 6 PCS1/PQS4 (io), 7 PCS0/~{SS}/PQS3 (io), 8 SCK/PQS2 (io), 9 MOSI/PQS1 (io), 10 MISO/PQS0 (io), 11 ADDR1 (io), 13 ADDR2 (io), 14 ADDR3 (io), 16 ADDR4 (io), 17 ADDR5 (io), 18 ADDR6 (io), 19 ADDR7 (io), 21 ADDR8 (io), 22 ADDR9 (io), 23 ADDR10 (io), 24 ADDR11 (io), 25 ADDR12 (io), 26 ADDR13 (io), 27 ADDR14 (io), 28 ADDR15 (io), 29 ADDR16 (io), 31 ADDR17 (io), 32 ADDR18 (io), 34 AN0/ANW/PQB0 (in), 35 AN1/ANX/PQB1 (in), 36 AN2/ANY/PQB2 (in), 37 AN3/ANZ/PQB3 (in), 38 AN48/PQB4 (in), 39 AN49/PQB5 (in), 40 AN50/PQB6 (in), 41 AN51/PQB7 (in), 42 VRH (in), 43 VRL (in), 44 VSSA (power), 45 VDDA (power), 46 AN52/MA0/PQA0 (io), 47 AN53/MA1/PQA1 (io), 48 AN54/MA2/PQA2 (io), 49 AN55/ETRIG1/PQA3 (io), 50 AN56/ETRIG2/PQA4 (io), 51 AN57/PQA5 (io), 52 AN57/PQA6 (io), 53 AN59/PQA7 (io), 55 XTAL, 56 VDDSYN (power), 57 EXTAL, 60 XFC, 63 CLKOUT (out), 64 ~{IPIPE}/DSO (out), 65 ~{IFETCH}/DSI (out), 66 FREEZE/QUOT (out), 67 ~{BKPT}/DSCLK (in), 68 ~{TSTME}/TSC (in), 69 ~{RESET} (io), 70 ~{HALT} (io), 71 ~{BERR} (in), 72 PF7/~{IRQ}7 (io), 73 PF6/~{IRQ}6 (io), 74 PF5/~{IRQ}5 (io), 75 PF4/~{IRQ}4 (io), 76 PF3/~{IRQ}3 (io), 77 PF2/~{IRQ}2 (io), 78 PF1/~{IRQ}1 (io), 79 PF0/MODCLK (io), 82 R/~{W} (out), 83 PE7/SIZ1 (io), 84 PE6/SIZ0 (io), 85 PE5/~{AS} (io), 86 PE4/~{DS} (io), 87 PE3/~{RMC} (io), 88 PE2/~{AVEC} (io), 89 PE1/~{DSACK}1 (io), 90 PE0/~{DSACK}0 (io), 91 ADDR0 (io), 93 DATA15 (io), 94 DATA14 (io), 96 DATA13 (io), 97 DATA12 (io), 98 DATA11 (io), 99 DATA10 (io), 100 DATA9 (io), 102 DATA8 (io), 103 DATA7 (io), 104 DATA6 (io), 105 DATA5 (io), 107 DATA4 (io), 108 DATA3 (io), 110 DATA2 (io), 111 DATA1 (io), 112 DATA0 (io), 113 ~{CSBOOT} (out), 114 ~{BR}/~{CS}0 (io), 115 ~{BG}/~{CS}1 (out), 116 ~{BGACK}/~{CS}2 (io), 117 FC0/~{CS}3 (out), 118 PC1/FC1/~{CS}4 (out), 119 PC2/FC2/~{CS}5 (out), 122 PC3/ADDR19/~{CS}6 (out), 123 PC4/ADDR20/~{CS}7 (out), 124 PC5/ADDR21/~{CS}8 (out), 125 PC6/ADDR22/~{CS}9 (out), 126 ADDR23/~{CS}10/ECLK (out), 127 T2CLK (in), 128 TPUCH15 (io), 129 TPUCH14 (io), 130 TPUCH13 (io), 132 TPUCH12 (io), 133 TPUCH11 (io), 135 VSTBY (power), 136 TPUCH10 (io), 137 TPUCH9 (io), 138 TPUCH8 (io), 139 TPUCH7 (io), 142 TPUCH6 (io), 143 TPUCH5 (io), 144 TPUCH4 (io), 145 TPUCH3 (io), 147 TPUCH2 (io), 148 TPUCH1 (io), 150 TPUCH0 (io), 151 CTD10 (io), 152 CTD9 (io), 153 CPWM8 (out), 154 CPWM7 (out), 155 CPWM6 (out), 156 CPWM5 (out), 157 CTD4 (io), 158 CTD3 (io), 159 CTM2C (in)
part B pins: 1 NC, 12 VDD (power), 15 VSS (power), 20 VSS (power), 30 VDD (power), 33 VSS (power), 54 VSS (power), 58 VSS (power), 59 VDD (power), 61 VDD (power), 62 VSS (power), 80 VDD (power), 81 VSS (power), 92 VDD (power), 95 VSS (power), 101 VSS (power), 106 VDD (power), 109 VSS (power), 120 VDD (power), 121 VSS (power), 131 VDD (power), 134 VSS (power), 140 VDD (power), 141 VSS (power), 146 VDD (power), 149 VSS (power), 160 NC

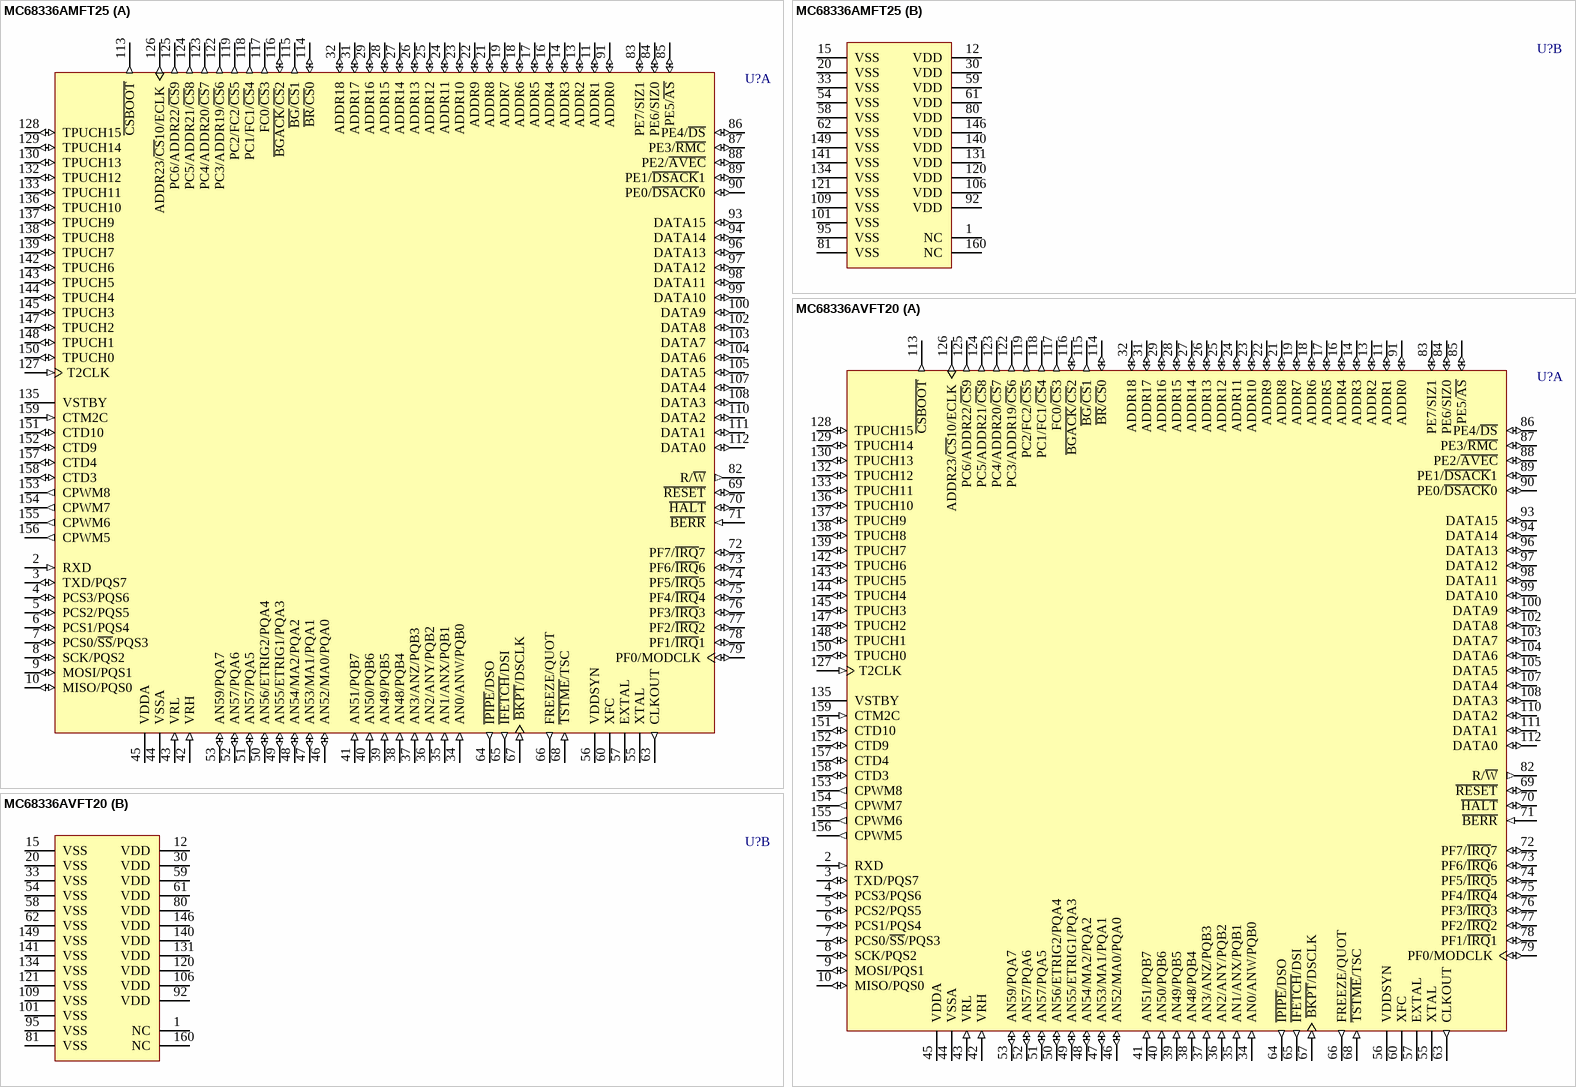
[diagram p142: symbols MC68336AMFT25 to MC68336AVFT20]

## MC68336AMFT25
designator U?
32-Bit Microcontroller; Published: 21-Mar-2003; LatestRevisionDate: 13-Apr-2006; LatestRevisionNote: IPC-7351 Footprint Added.; DatasheetVersion: 15-Oct-2000; PackageVersion: 1996; PackageReference: 864A-03; Publisher: Altium Limited; PackageDescription: 160-Pin Plastic Quad Flat Pack 0.65 mm Pitch; Code_IPC: QFP65P3120X3120-160; ComponentLink1Description: Manufacturer Link; ComponentLink1URL: http://www.freescale.com/; ComponentLink2Description: Datasheet; ComponentLink2URL: http://www.freescale.com/files/microcontrollers/doc/data_sheet/MC683336_376UM_ZIP.zip
footprint 864A-03_N (QFP, 160-Leads, Body 28 x 28mm, Pitch 0.65mm, IPC Medium Density)
footprint 864A-03_L (QFP, 160-Leads, Body 28 x 28mm, Pitch 0.65mm, IPC High Density)
footprint 864A-03_M (QFP, 160-Leads, Body 28 x 28mm, Pitch 0.65mm, IPC Low Density)
3D model MC68336-864A-03 (160-Pin Plastic Quad Flat Pack 0.65 mm Pitch)
part A pins: 2 RXD (in), 3 TXD/PQS7 (io), 4 PCS3/PQS6 (io), 5 PCS2/PQS5 (io), 6 PCS1/PQS4 (io), 7 PCS0/~{SS}/PQS3 (io), 8 SCK/PQS2 (io), 9 MOSI/PQS1 (io), 10 MISO/PQS0 (io), 11 ADDR1 (io), 13 ADDR2 (io), 14 ADDR3 (io), 16 ADDR4 (io), 17 ADDR5 (io), 18 ADDR6 (io), 19 ADDR7 (io), 21 ADDR8 (io), 22 ADDR9 (io), 23 ADDR10 (io), 24 ADDR11 (io), 25 ADDR12 (io), 26 ADDR13 (io), 27 ADDR14 (io), 28 ADDR15 (io), 29 ADDR16 (io), 31 ADDR17 (io), 32 ADDR18 (io), 34 AN0/ANW/PQB0 (in), 35 AN1/ANX/PQB1 (in), 36 AN2/ANY/PQB2 (in), 37 AN3/ANZ/PQB3 (in), 38 AN48/PQB4 (in), 39 AN49/PQB5 (in), 40 AN50/PQB6 (in), 41 AN51/PQB7 (in), 42 VRH (in), 43 VRL (in), 44 VSSA (power), 45 VDDA (power), 46 AN52/MA0/PQA0 (io), 47 AN53/MA1/PQA1 (io), 48 AN54/MA2/PQA2 (io), 49 AN55/ETRIG1/PQA3 (io), 50 AN56/ETRIG2/PQA4 (io), 51 AN57/PQA5 (io), 52 AN57/PQA6 (io), 53 AN59/PQA7 (io), 55 XTAL, 56 VDDSYN (power), 57 EXTAL, 60 XFC, 63 CLKOUT (out), 64 ~{IPIPE}/DSO (out), 65 ~{IFETCH}/DSI (out), 66 FREEZE/QUOT (out), 67 ~{BKPT}/DSCLK (in), 68 ~{TSTME}/TSC (in), 69 ~{RESET} (io), 70 ~{HALT} (io), 71 ~{BERR} (in), 72 PF7/~{IRQ}7 (io), 73 PF6/~{IRQ}6 (io), 74 PF5/~{IRQ}5 (io), 75 PF4/~{IRQ}4 (io), 76 PF3/~{IRQ}3 (io), 77 PF2/~{IRQ}2 (io), 78 PF1/~{IRQ}1 (io), 79 PF0/MODCLK (io), 82 R/~{W} (out), 83 PE7/SIZ1 (io), 84 PE6/SIZ0 (io), 85 PE5/~{AS} (io), 86 PE4/~{DS} (io), 87 PE3/~{RMC} (io), 88 PE2/~{AVEC} (io), 89 PE1/~{DSACK}1 (io), 90 PE0/~{DSACK}0 (io), 91 ADDR0 (io), 93 DATA15 (io), 94 DATA14 (io), 96 DATA13 (io), 97 DATA12 (io), 98 DATA11 (io), 99 DATA10 (io), 100 DATA9 (io), 102 DATA8 (io), 103 DATA7 (io), 104 DATA6 (io), 105 DATA5 (io), 107 DATA4 (io), 108 DATA3 (io), 110 DATA2 (io), 111 DATA1 (io), 112 DATA0 (io), 113 ~{CSBOOT} (out), 114 ~{BR}/~{CS}0 (io), 115 ~{BG}/~{CS}1 (out), 116 ~{BGACK}/~{CS}2 (io), 117 FC0/~{CS}3 (out), 118 PC1/FC1/~{CS}4 (out), 119 PC2/FC2/~{CS}5 (out), 122 PC3/ADDR19/~{CS}6 (out), 123 PC4/ADDR20/~{CS}7 (out), 124 PC5/ADDR21/~{CS}8 (out), 125 PC6/ADDR22/~{CS}9 (out), 126 ADDR23/~{CS}10/ECLK (out), 127 T2CLK (in), 128 TPUCH15 (io), 129 TPUCH14 (io), 130 TPUCH13 (io), 132 TPUCH12 (io), 133 TPUCH11 (io), 135 VSTBY (power), 136 TPUCH10 (io), 137 TPUCH9 (io), 138 TPUCH8 (io), 139 TPUCH7 (io), 142 TPUCH6 (io), 143 TPUCH5 (io), 144 TPUCH4 (io), 145 TPUCH3 (io), 147 TPUCH2 (io), 148 TPUCH1 (io), 150 TPUCH0 (io), 151 CTD10 (io), 152 CTD9 (io), 153 CPWM8 (out), 154 CPWM7 (out), 155 CPWM6 (out), 156 CPWM5 (out), 157 CTD4 (io), 158 CTD3 (io), 159 CTM2C (in)
part B pins: 1 NC, 12 VDD (power), 15 VSS (power), 20 VSS (power), 30 VDD (power), 33 VSS (power), 54 VSS (power), 58 VSS (power), 59 VDD (power), 61 VDD (power), 62 VSS (power), 80 VDD (power), 81 VSS (power), 92 VDD (power), 95 VSS (power), 101 VSS (power), 106 VDD (power), 109 VSS (power), 120 VDD (power), 121 VSS (power), 131 VDD (power), 134 VSS (power), 140 VDD (power), 141 VSS (power), 146 VDD (power), 149 VSS (power), 160 NC

## MC68336AVFT20
designator U?
32-Bit Microcontroller; Published: 21-Mar-2003; LatestRevisionDate: 13-Apr-2006; LatestRevisionNote: IPC-7351 Footprint Added.; DatasheetVersion: 15-Oct-2000; PackageVersion: 1996; PackageReference: 864A-03; Publisher: Altium Limited; PackageDescription: 160-Pin Plastic Quad Flat Pack 0.65 mm Pitch; Code_IPC: QFP65P3120X3120-160; ComponentLink1Description: Manufacturer Link; ComponentLink1URL: http://www.freescale.com/; ComponentLink2Description: Datasheet; ComponentLink2URL: http://www.freescale.com/files/microcontrollers/doc/data_sheet/MC683336_376UM_ZIP.zip
footprint 864A-03_N (QFP, 160-Leads, Body 28 x 28mm, Pitch 0.65mm, IPC Medium Density)
footprint 864A-03_L (QFP, 160-Leads, Body 28 x 28mm, Pitch 0.65mm, IPC High Density)
footprint 864A-03_M (QFP, 160-Leads, Body 28 x 28mm, Pitch 0.65mm, IPC Low Density)
3D model MC68336-864A-03 (160-Pin Plastic Quad Flat Pack 0.65 mm Pitch)
part A pins: 2 RXD (in), 3 TXD/PQS7 (io), 4 PCS3/PQS6 (io), 5 PCS2/PQS5 (io), 6 PCS1/PQS4 (io), 7 PCS0/~{SS}/PQS3 (io), 8 SCK/PQS2 (io), 9 MOSI/PQS1 (io), 10 MISO/PQS0 (io), 11 ADDR1 (io), 13 ADDR2 (io), 14 ADDR3 (io), 16 ADDR4 (io), 17 ADDR5 (io), 18 ADDR6 (io), 19 ADDR7 (io), 21 ADDR8 (io), 22 ADDR9 (io), 23 ADDR10 (io), 24 ADDR11 (io), 25 ADDR12 (io), 26 ADDR13 (io), 27 ADDR14 (io), 28 ADDR15 (io), 29 ADDR16 (io), 31 ADDR17 (io), 32 ADDR18 (io), 34 AN0/ANW/PQB0 (in), 35 AN1/ANX/PQB1 (in), 36 AN2/ANY/PQB2 (in), 37 AN3/ANZ/PQB3 (in), 38 AN48/PQB4 (in), 39 AN49/PQB5 (in), 40 AN50/PQB6 (in), 41 AN51/PQB7 (in), 42 VRH (in), 43 VRL (in), 44 VSSA (power), 45 VDDA (power), 46 AN52/MA0/PQA0 (io), 47 AN53/MA1/PQA1 (io), 48 AN54/MA2/PQA2 (io), 49 AN55/ETRIG1/PQA3 (io), 50 AN56/ETRIG2/PQA4 (io), 51 AN57/PQA5 (io), 52 AN57/PQA6 (io), 53 AN59/PQA7 (io), 55 XTAL, 56 VDDSYN (power), 57 EXTAL, 60 XFC, 63 CLKOUT (out), 64 ~{IPIPE}/DSO (out), 65 ~{IFETCH}/DSI (out), 66 FREEZE/QUOT (out), 67 ~{BKPT}/DSCLK (in), 68 ~{TSTME}/TSC (in), 69 ~{RESET} (io), 70 ~{HALT} (io), 71 ~{BERR} (in), 72 PF7/~{IRQ}7 (io), 73 PF6/~{IRQ}6 (io), 74 PF5/~{IRQ}5 (io), 75 PF4/~{IRQ}4 (io), 76 PF3/~{IRQ}3 (io), 77 PF2/~{IRQ}2 (io), 78 PF1/~{IRQ}1 (io), 79 PF0/MODCLK (io), 82 R/~{W} (out), 83 PE7/SIZ1 (io), 84 PE6/SIZ0 (io), 85 PE5/~{AS} (io), 86 PE4/~{DS} (io), 87 PE3/~{RMC} (io), 88 PE2/~{AVEC} (io), 89 PE1/~{DSACK}1 (io), 90 PE0/~{DSACK}0 (io), 91 ADDR0 (io), 93 DATA15 (io), 94 DATA14 (io), 96 DATA13 (io), 97 DATA12 (io), 98 DATA11 (io), 99 DATA10 (io), 100 DATA9 (io), 102 DATA8 (io), 103 DATA7 (io), 104 DATA6 (io), 105 DATA5 (io), 107 DATA4 (io), 108 DATA3 (io), 110 DATA2 (io), 111 DATA1 (io), 112 DATA0 (io), 113 ~{CSBOOT} (out), 114 ~{BR}/~{CS}0 (io), 115 ~{BG}/~{CS}1 (out), 116 ~{BGACK}/~{CS}2 (io), 117 FC0/~{CS}3 (out), 118 PC1/FC1/~{CS}4 (out), 119 PC2/FC2/~{CS}5 (out), 122 PC3/ADDR19/~{CS}6 (out), 123 PC4/ADDR20/~{CS}7 (out), 124 PC5/ADDR21/~{CS}8 (out), 125 PC6/ADDR22/~{CS}9 (out), 126 ADDR23/~{CS}10/ECLK (out), 127 T2CLK (in), 128 TPUCH15 (io), 129 TPUCH14 (io), 130 TPUCH13 (io), 132 TPUCH12 (io), 133 TPUCH11 (io), 135 VSTBY (power), 136 TPUCH10 (io), 137 TPUCH9 (io), 138 TPUCH8 (io), 139 TPUCH7 (io), 142 TPUCH6 (io), 143 TPUCH5 (io), 144 TPUCH4 (io), 145 TPUCH3 (io), 147 TPUCH2 (io), 148 TPUCH1 (io), 150 TPUCH0 (io), 151 CTD10 (io), 152 CTD9 (io), 153 CPWM8 (out), 154 CPWM7 (out), 155 CPWM6 (out), 156 CPWM5 (out), 157 CTD4 (io), 158 CTD3 (io), 159 CTM2C (in)
part B pins: 1 NC, 12 VDD (power), 15 VSS (power), 20 VSS (power), 30 VDD (power), 33 VSS (power), 54 VSS (power), 58 VSS (power), 59 VDD (power), 61 VDD (power), 62 VSS (power), 80 VDD (power), 81 VSS (power), 92 VDD (power), 95 VSS (power), 101 VSS (power), 106 VDD (power), 109 VSS (power), 120 VDD (power), 121 VSS (power), 131 VDD (power), 134 VSS (power), 140 VDD (power), 141 VSS (power), 146 VDD (power), 149 VSS (power), 160 NC

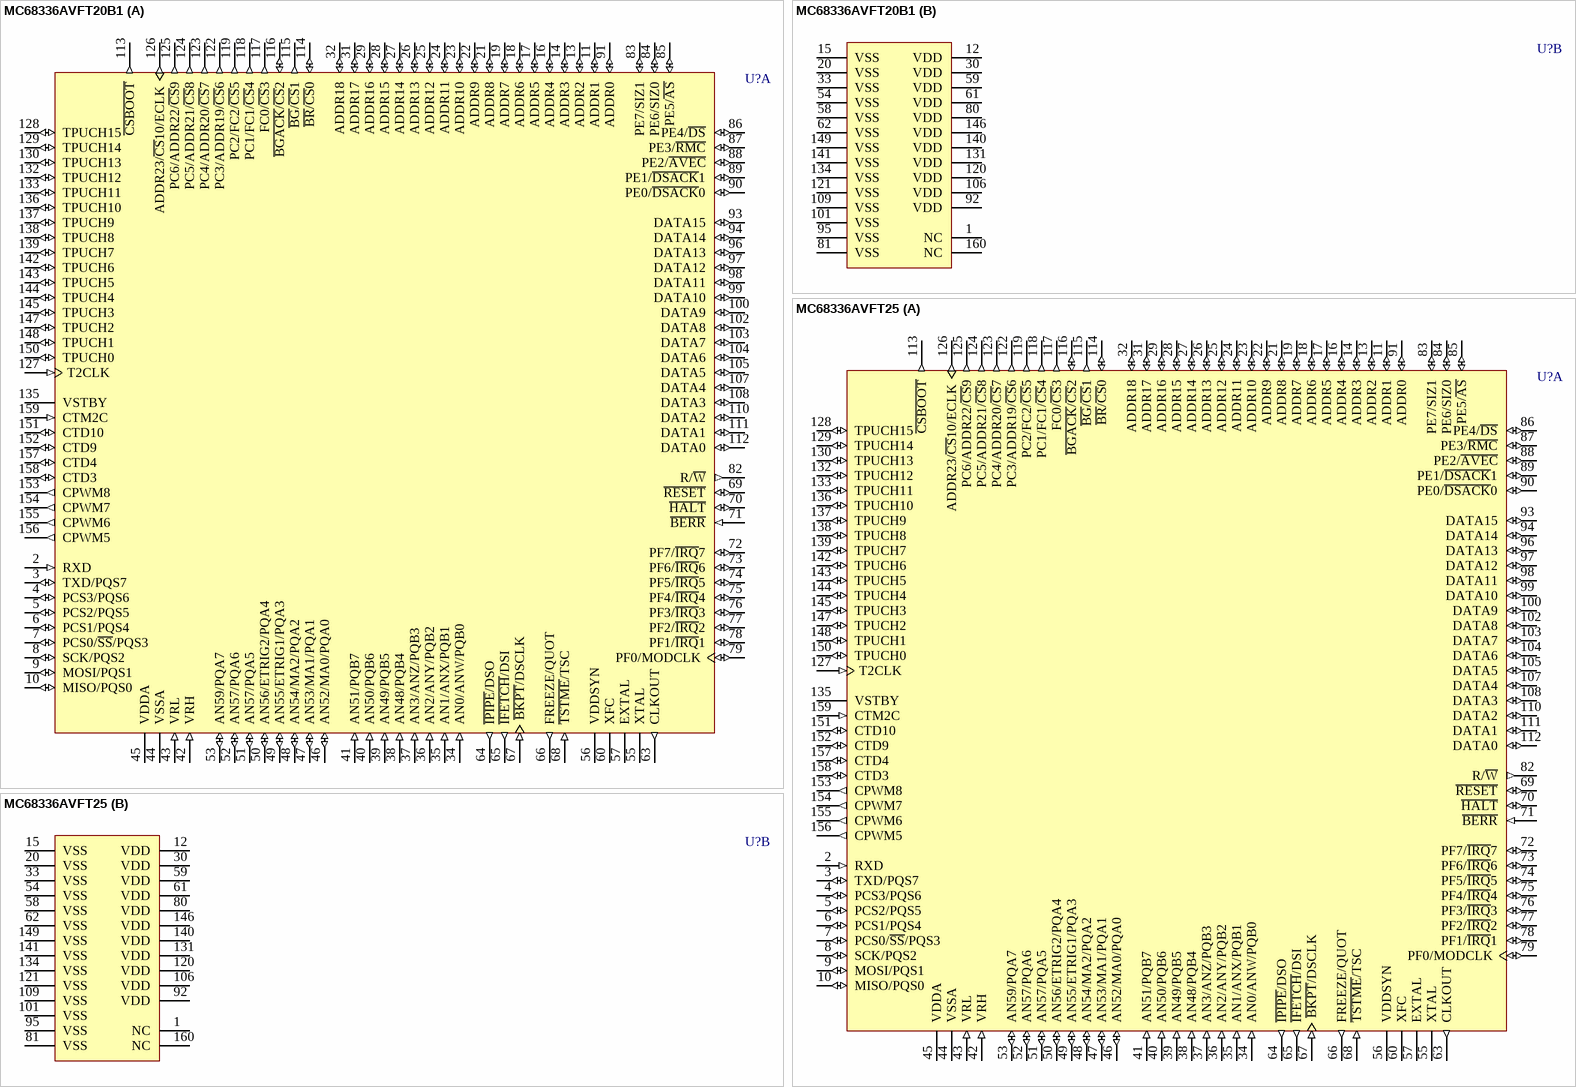
[diagram p143: symbols MC68336AVFT20B1 to MC68336AVFT25]

## MC68336AVFT20B1
designator U?
32-Bit Microcontroller; Published: 21-Mar-2003; LatestRevisionDate: 13-Apr-2006; LatestRevisionNote: IPC-7351 Footprint Added.; DatasheetVersion: 15-Oct-2000; PackageVersion: 1996; PackageReference: 864A-03; Publisher: Altium Limited; PackageDescription: 160-Pin Plastic Quad Flat Pack 0.65 mm Pitch; Code_IPC: QFP65P3120X3120-160; ComponentLink1Description: Manufacturer Link; ComponentLink1URL: http://www.freescale.com/; ComponentLink2Description: Datasheet; ComponentLink2URL: http://www.freescale.com/files/microcontrollers/doc/data_sheet/MC683336_376UM_ZIP.zip
footprint 864A-03_N (QFP, 160-Leads, Body 28 x 28mm, Pitch 0.65mm, IPC Medium Density)
footprint 864A-03_L (QFP, 160-Leads, Body 28 x 28mm, Pitch 0.65mm, IPC High Density)
footprint 864A-03_M (QFP, 160-Leads, Body 28 x 28mm, Pitch 0.65mm, IPC Low Density)
3D model MC68336-864A-03 (160-Pin Plastic Quad Flat Pack 0.65 mm Pitch)
part A pins: 2 RXD (in), 3 TXD/PQS7 (io), 4 PCS3/PQS6 (io), 5 PCS2/PQS5 (io), 6 PCS1/PQS4 (io), 7 PCS0/~{SS}/PQS3 (io), 8 SCK/PQS2 (io), 9 MOSI/PQS1 (io), 10 MISO/PQS0 (io), 11 ADDR1 (io), 13 ADDR2 (io), 14 ADDR3 (io), 16 ADDR4 (io), 17 ADDR5 (io), 18 ADDR6 (io), 19 ADDR7 (io), 21 ADDR8 (io), 22 ADDR9 (io), 23 ADDR10 (io), 24 ADDR11 (io), 25 ADDR12 (io), 26 ADDR13 (io), 27 ADDR14 (io), 28 ADDR15 (io), 29 ADDR16 (io), 31 ADDR17 (io), 32 ADDR18 (io), 34 AN0/ANW/PQB0 (in), 35 AN1/ANX/PQB1 (in), 36 AN2/ANY/PQB2 (in), 37 AN3/ANZ/PQB3 (in), 38 AN48/PQB4 (in), 39 AN49/PQB5 (in), 40 AN50/PQB6 (in), 41 AN51/PQB7 (in), 42 VRH (in), 43 VRL (in), 44 VSSA (power), 45 VDDA (power), 46 AN52/MA0/PQA0 (io), 47 AN53/MA1/PQA1 (io), 48 AN54/MA2/PQA2 (io), 49 AN55/ETRIG1/PQA3 (io), 50 AN56/ETRIG2/PQA4 (io), 51 AN57/PQA5 (io), 52 AN57/PQA6 (io), 53 AN59/PQA7 (io), 55 XTAL, 56 VDDSYN (power), 57 EXTAL, 60 XFC, 63 CLKOUT (out), 64 ~{IPIPE}/DSO (out), 65 ~{IFETCH}/DSI (out), 66 FREEZE/QUOT (out), 67 ~{BKPT}/DSCLK (in), 68 ~{TSTME}/TSC (in), 69 ~{RESET} (io), 70 ~{HALT} (io), 71 ~{BERR} (in), 72 PF7/~{IRQ}7 (io), 73 PF6/~{IRQ}6 (io), 74 PF5/~{IRQ}5 (io), 75 PF4/~{IRQ}4 (io), 76 PF3/~{IRQ}3 (io), 77 PF2/~{IRQ}2 (io), 78 PF1/~{IRQ}1 (io), 79 PF0/MODCLK (io), 82 R/~{W} (out), 83 PE7/SIZ1 (io), 84 PE6/SIZ0 (io), 85 PE5/~{AS} (io), 86 PE4/~{DS} (io), 87 PE3/~{RMC} (io), 88 PE2/~{AVEC} (io), 89 PE1/~{DSACK}1 (io), 90 PE0/~{DSACK}0 (io), 91 ADDR0 (io), 93 DATA15 (io), 94 DATA14 (io), 96 DATA13 (io), 97 DATA12 (io), 98 DATA11 (io), 99 DATA10 (io), 100 DATA9 (io), 102 DATA8 (io), 103 DATA7 (io), 104 DATA6 (io), 105 DATA5 (io), 107 DATA4 (io), 108 DATA3 (io), 110 DATA2 (io), 111 DATA1 (io), 112 DATA0 (io), 113 ~{CSBOOT} (out), 114 ~{BR}/~{CS}0 (io), 115 ~{BG}/~{CS}1 (out), 116 ~{BGACK}/~{CS}2 (io), 117 FC0/~{CS}3 (out), 118 PC1/FC1/~{CS}4 (out), 119 PC2/FC2/~{CS}5 (out), 122 PC3/ADDR19/~{CS}6 (out), 123 PC4/ADDR20/~{CS}7 (out), 124 PC5/ADDR21/~{CS}8 (out), 125 PC6/ADDR22/~{CS}9 (out), 126 ADDR23/~{CS}10/ECLK (out), 127 T2CLK (in), 128 TPUCH15 (io), 129 TPUCH14 (io), 130 TPUCH13 (io), 132 TPUCH12 (io), 133 TPUCH11 (io), 135 VSTBY (power), 136 TPUCH10 (io), 137 TPUCH9 (io), 138 TPUCH8 (io), 139 TPUCH7 (io), 142 TPUCH6 (io), 143 TPUCH5 (io), 144 TPUCH4 (io), 145 TPUCH3 (io), 147 TPUCH2 (io), 148 TPUCH1 (io), 150 TPUCH0 (io), 151 CTD10 (io), 152 CTD9 (io), 153 CPWM8 (out), 154 CPWM7 (out), 155 CPWM6 (out), 156 CPWM5 (out), 157 CTD4 (io), 158 CTD3 (io), 159 CTM2C (in)
part B pins: 1 NC, 12 VDD (power), 15 VSS (power), 20 VSS (power), 30 VDD (power), 33 VSS (power), 54 VSS (power), 58 VSS (power), 59 VDD (power), 61 VDD (power), 62 VSS (power), 80 VDD (power), 81 VSS (power), 92 VDD (power), 95 VSS (power), 101 VSS (power), 106 VDD (power), 109 VSS (power), 120 VDD (power), 121 VSS (power), 131 VDD (power), 134 VSS (power), 140 VDD (power), 141 VSS (power), 146 VDD (power), 149 VSS (power), 160 NC

## MC68336AVFT25
designator U?
32-Bit Microcontroller; Published: 21-Mar-2003; LatestRevisionDate: 13-Apr-2006; LatestRevisionNote: IPC-7351 Footprint Added.; DatasheetVersion: 15-Oct-2000; PackageVersion: 1996; PackageReference: 864A-03; Publisher: Altium Limited; PackageDescription: 160-Pin Plastic Quad Flat Pack 0.65 mm Pitch; Code_IPC: QFP65P3120X3120-160; ComponentLink1Description: Manufacturer Link; ComponentLink1URL: http://www.freescale.com/; ComponentLink2Description: Datasheet; ComponentLink2URL: http://www.freescale.com/files/microcontrollers/doc/data_sheet/MC683336_376UM_ZIP.zip
footprint 864A-03_N (QFP, 160-Leads, Body 28 x 28mm, Pitch 0.65mm, IPC Medium Density)
footprint 864A-03_L (QFP, 160-Leads, Body 28 x 28mm, Pitch 0.65mm, IPC High Density)
footprint 864A-03_M (QFP, 160-Leads, Body 28 x 28mm, Pitch 0.65mm, IPC Low Density)
3D model MC68336-864A-03 (160-Pin Plastic Quad Flat Pack 0.65 mm Pitch)
part A pins: 2 RXD (in), 3 TXD/PQS7 (io), 4 PCS3/PQS6 (io), 5 PCS2/PQS5 (io), 6 PCS1/PQS4 (io), 7 PCS0/~{SS}/PQS3 (io), 8 SCK/PQS2 (io), 9 MOSI/PQS1 (io), 10 MISO/PQS0 (io), 11 ADDR1 (io), 13 ADDR2 (io), 14 ADDR3 (io), 16 ADDR4 (io), 17 ADDR5 (io), 18 ADDR6 (io), 19 ADDR7 (io), 21 ADDR8 (io), 22 ADDR9 (io), 23 ADDR10 (io), 24 ADDR11 (io), 25 ADDR12 (io), 26 ADDR13 (io), 27 ADDR14 (io), 28 ADDR15 (io), 29 ADDR16 (io), 31 ADDR17 (io), 32 ADDR18 (io), 34 AN0/ANW/PQB0 (in), 35 AN1/ANX/PQB1 (in), 36 AN2/ANY/PQB2 (in), 37 AN3/ANZ/PQB3 (in), 38 AN48/PQB4 (in), 39 AN49/PQB5 (in), 40 AN50/PQB6 (in), 41 AN51/PQB7 (in), 42 VRH (in), 43 VRL (in), 44 VSSA (power), 45 VDDA (power), 46 AN52/MA0/PQA0 (io), 47 AN53/MA1/PQA1 (io), 48 AN54/MA2/PQA2 (io), 49 AN55/ETRIG1/PQA3 (io), 50 AN56/ETRIG2/PQA4 (io), 51 AN57/PQA5 (io), 52 AN57/PQA6 (io), 53 AN59/PQA7 (io), 55 XTAL, 56 VDDSYN (power), 57 EXTAL, 60 XFC, 63 CLKOUT (out), 64 ~{IPIPE}/DSO (out), 65 ~{IFETCH}/DSI (out), 66 FREEZE/QUOT (out), 67 ~{BKPT}/DSCLK (in), 68 ~{TSTME}/TSC (in), 69 ~{RESET} (io), 70 ~{HALT} (io), 71 ~{BERR} (in), 72 PF7/~{IRQ}7 (io), 73 PF6/~{IRQ}6 (io), 74 PF5/~{IRQ}5 (io), 75 PF4/~{IRQ}4 (io), 76 PF3/~{IRQ}3 (io), 77 PF2/~{IRQ}2 (io), 78 PF1/~{IRQ}1 (io), 79 PF0/MODCLK (io), 82 R/~{W} (out), 83 PE7/SIZ1 (io), 84 PE6/SIZ0 (io), 85 PE5/~{AS} (io), 86 PE4/~{DS} (io), 87 PE3/~{RMC} (io), 88 PE2/~{AVEC} (io), 89 PE1/~{DSACK}1 (io), 90 PE0/~{DSACK}0 (io), 91 ADDR0 (io), 93 DATA15 (io), 94 DATA14 (io), 96 DATA13 (io), 97 DATA12 (io), 98 DATA11 (io), 99 DATA10 (io), 100 DATA9 (io), 102 DATA8 (io), 103 DATA7 (io), 104 DATA6 (io), 105 DATA5 (io), 107 DATA4 (io), 108 DATA3 (io), 110 DATA2 (io), 111 DATA1 (io), 112 DATA0 (io), 113 ~{CSBOOT} (out), 114 ~{BR}/~{CS}0 (io), 115 ~{BG}/~{CS}1 (out), 116 ~{BGACK}/~{CS}2 (io), 117 FC0/~{CS}3 (out), 118 PC1/FC1/~{CS}4 (out), 119 PC2/FC2/~{CS}5 (out), 122 PC3/ADDR19/~{CS}6 (out), 123 PC4/ADDR20/~{CS}7 (out), 124 PC5/ADDR21/~{CS}8 (out), 125 PC6/ADDR22/~{CS}9 (out), 126 ADDR23/~{CS}10/ECLK (out), 127 T2CLK (in), 128 TPUCH15 (io), 129 TPUCH14 (io), 130 TPUCH13 (io), 132 TPUCH12 (io), 133 TPUCH11 (io), 135 VSTBY (power), 136 TPUCH10 (io), 137 TPUCH9 (io), 138 TPUCH8 (io), 139 TPUCH7 (io), 142 TPUCH6 (io), 143 TPUCH5 (io), 144 TPUCH4 (io), 145 TPUCH3 (io), 147 TPUCH2 (io), 148 TPUCH1 (io), 150 TPUCH0 (io), 151 CTD10 (io), 152 CTD9 (io), 153 CPWM8 (out), 154 CPWM7 (out), 155 CPWM6 (out), 156 CPWM5 (out), 157 CTD4 (io), 158 CTD3 (io), 159 CTM2C (in)
part B pins: 1 NC, 12 VDD (power), 15 VSS (power), 20 VSS (power), 30 VDD (power), 33 VSS (power), 54 VSS (power), 58 VSS (power), 59 VDD (power), 61 VDD (power), 62 VSS (power), 80 VDD (power), 81 VSS (power), 92 VDD (power), 95 VSS (power), 101 VSS (power), 106 VDD (power), 109 VSS (power), 120 VDD (power), 121 VSS (power), 131 VDD (power), 134 VSS (power), 140 VDD (power), 141 VSS (power), 146 VDD (power), 149 VSS (power), 160 NC

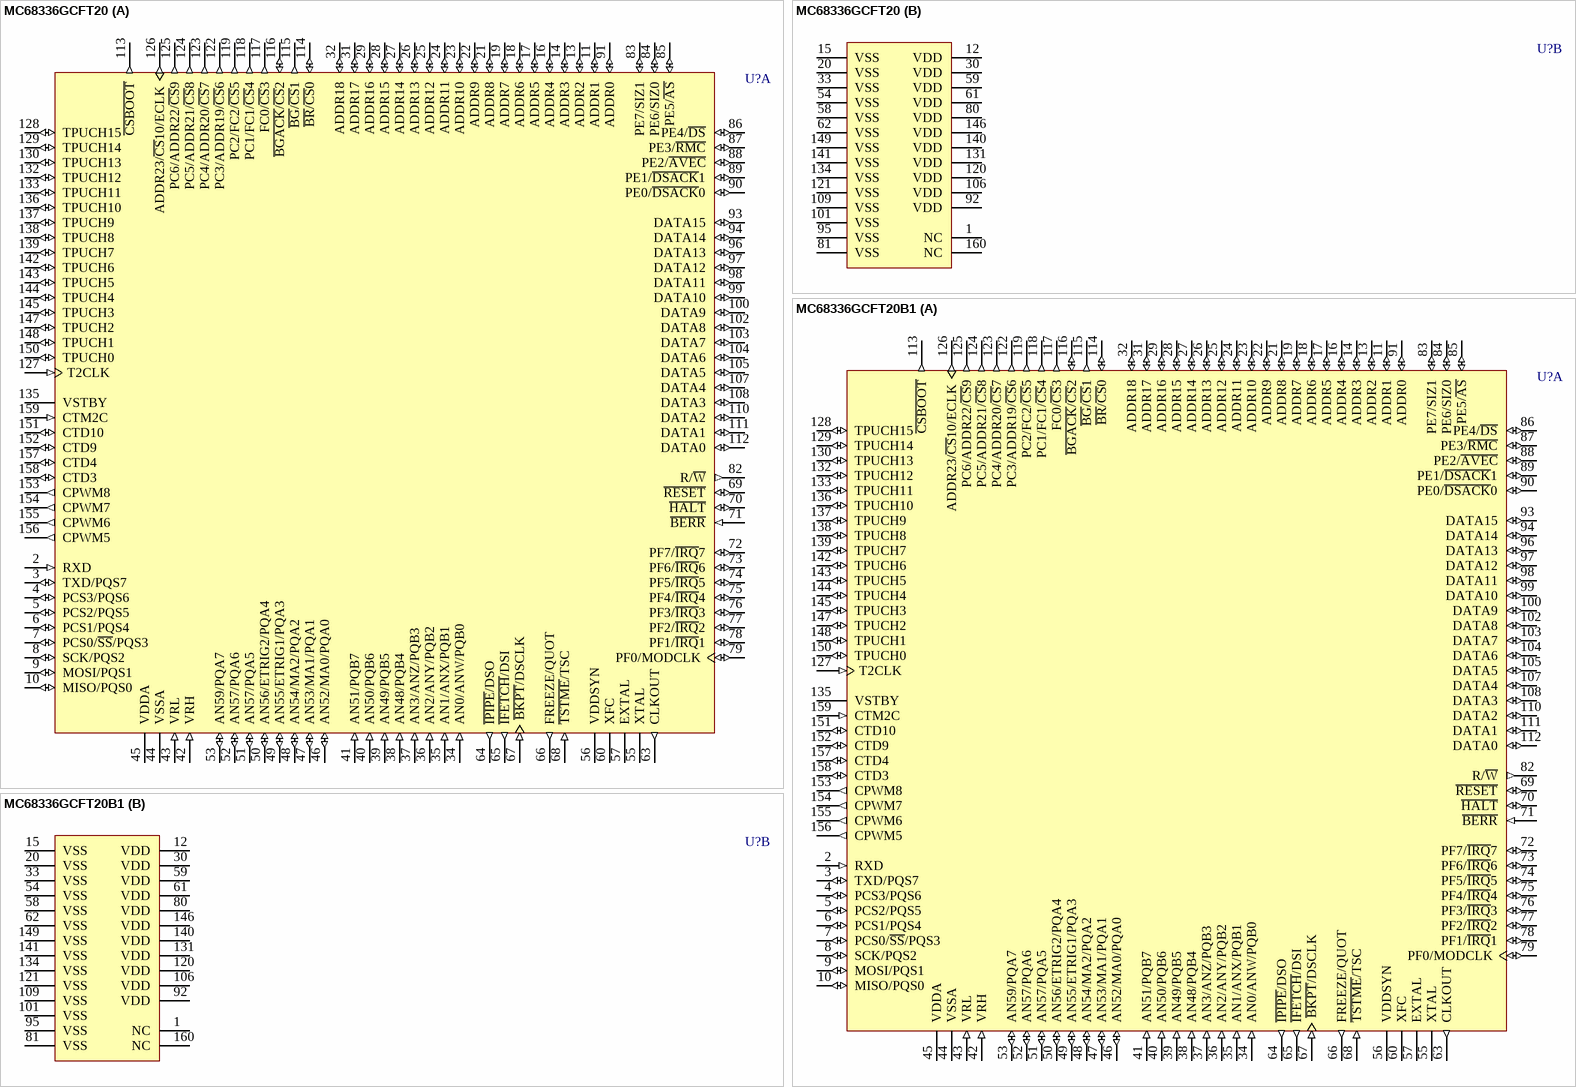
[diagram p144: symbols MC68336GCFT20 to MC68336GCFT20B1]